# Altium integrated library MU-RK3576J-MB.IntLib: 262 symbols (part 3 of 4)
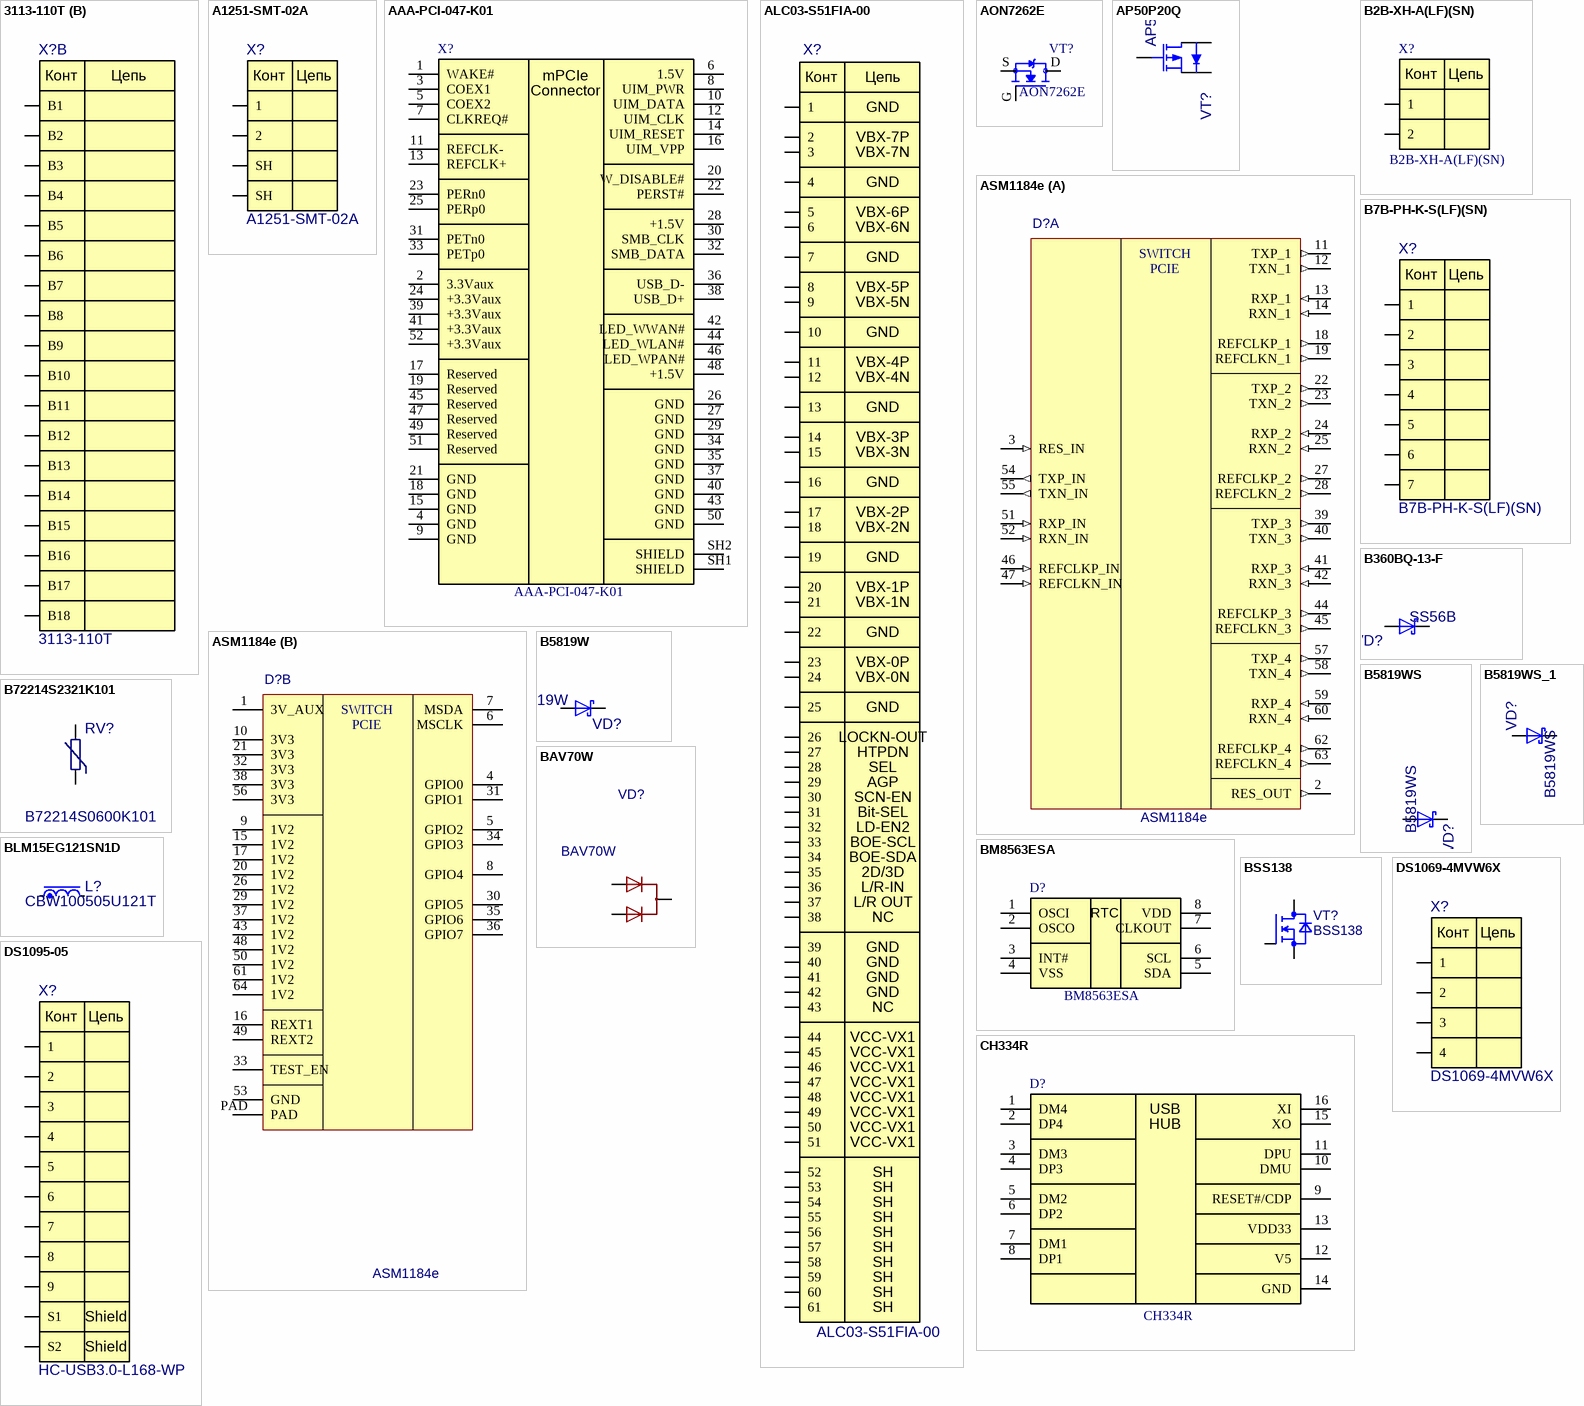
[diagram p15: symbols 3113-110T to DS1095-05]

## 3113-110T
designator X?
PCI Connector, Vertical, Surface Mount, x1, 36 Positions, 1.00mm (0.039in) Pitch; Manufacturer: UMAX; Check: False; Part Number: 3113-110T; Value: 3113-110T; NameFromManufacturer: 3113-110T
footprint 3113-110T
part A pins: A1, A2, A3, A4, A5, A6, A7, A8, A9, A10, A11, A12, A13, A14, A15, A16, A17, A18
part B pins: B1, B2, B3, B4, B5, B6, B7, B8, B9, B10, B11, B12, B13, B14, B15, B16, B17, B18
part A text: Конт; Цепь
part B text: Конт; Цепь

## A1251-SMT-02A
designator X?
PicoBlade 1.25mm; Manufacturer: MOLEX; Check: False; Part Number: A1251-SMT-02A; Value: A1251-SMT-02A; NameFromManufacturer: A1251-SMT-02A
footprint A1251-SMT-02A
pins: 1, 2, 3 SH, 4 SH
text: Конт; Цепь

## AAA-PCI-047-K01
designator X?
mPCI-E Surface Mount 52 SMD,P=0.8mm Card Edge Connectors; Manufacturer: LOTES; Place: S; Check: False; Value: AAA-PCI-047-K01; Part Number: AAA-PCI-047-K01; NameFromManufacturer: AAA-PCI-047-K01; ComponentLink1Description: DATASHEET; Last changed: 24.03.2023
footprint AAA-PCI-047-K01
pins: 1 WAKE#, 2 3.3Vaux, 3 СОЕХ1, 4 GND, 5 СОЕХ2, 6 1.5V, 7 CLKREQ#, 8 UIM_PWR, 9 GND, 10 UIM_DATA, 11 REFCLK-, 12 UIM_CLK, 13 REFCLK+, 14 UIM_RESET, 15 GND, 16 UIM_VPP, 17 Reserved, 18 GND, 19 Reserved, 20 W_DISABLE#, 21 GND, 22 PERST#, 23 PERn0, 24 +3.3Vaux, 25 PERp0, 26 GND, 27 GND, 28 +1.5V, 29 GND, 30 SMB_CLK, 31 PETn0, 32 SMB_DATA, 33 РЕТр0, 34 GND, 35 GND, 36 USB_D-, 37 GND, 38 USB_D+, 39 +3.3Vaux, 40 GND, 41 +3.3Vaux, 42 LED_WWAN#, 43 GND, 44 LED_WLAN#, 45 Reserved, 46 LED_WPAN#, 47 Reserved, 48 +1.5V, 49 Reserved, 50 GND, 51 Reserved, 52 +3.3Vaux, SH1 SHIELD, SH2 SHIELD
text: mPCIe; Connector

## ALC03-S51FIA-00
designator X?
Non-Latching 51P 0.5mm 500mA 50V Bottom Contact Surface Mount, Right Angle SMD,P=0.5mm,Surface Mount,Right Angle FFC, FPC (Flat Flexible) Connector Assemblies RoHS; Manufacturer: JUSHUO; Check: False; Part Number: ALC03-S51FIA-00; Value: ALC03-S51FIA-00; NameFromManufacturer: ALC03-S51FIA-00
footprint ALC03-S51FIA-00
pins: 1, 2, 3, 4, 5, 6, 7, 8, 9, 10, 11, 12, 13, 14, 15, 16, 17, 18, 19, 20, 21, 22, 23, 24, 25, 26, 27, 28, 29, 30, 31, 32, 33, 34, 35, 36, 37, 38, 39, 40, 41, 42, 43, 44, 45, 46, 47, 48, 49, 50, 51, 52, 53, 54, 55, 56, 57, 58, 59, 60, 61
text: Конт; Цепь; GND; VBX-7P; VBX-7N; VBX-6P; VBX-6N; VBX-5P; VBX-5N; VBX-4P; VBX-4N; VBX-3P; VBX-3N; VBX-2P; VBX-2N; VBX-1P; VBX-1N; VBX-0P; VBX-0N; LOCKN-OUT; HTPDN; SEL; AGP; SCN-EN; Bit-SEL; LD-EN2; BOE-SCL; BOE-SDA; 2D/3D; L/R-IN; L/R OUT; NC; VCC-VX1; SH

## AON7262E
designator VT?
60V 6.2mΩ@10V,20A 2.2V@250uA N Channel DFN-8(3.3x3.3) MOSFET; Manufacturer: Alpha & Omega; Check: False; Part Number: AON7262E; NameFromManufacturer: AON7262E; Value: AON7262E
footprint DMN4020LFDEQ-7
footprint AON7262E
pins: D, G, S

## AP50P20Q
designator VT?
20V 50A 40W 6.6mΩ@4.5V,15A 650mV@250uA P Channel WDFN-8(3x3) MOSFETs; Manufacturer: ALLPOWER; Check: False; Part Number: AP50P20Q; Value: AP50P20Q; NameFromManufacturer: AP50P20Q
footprint AP50P20Q
pins: 1, 2, 3, 4, 5, 6, 7, 8

## ASM1184e
designator D?
Interface PCIE switch, PCIEx1 to 4xPCIEx1, 3.0V~3.6V, QFN-64 9.0x9.0x0.9mm 0.5mm pitch; Manufacturer: ASMedia; Place: *); Check: False; Part Number: ASM1184e; Temperature: 0°C~95°C; Value: ASM1184e; ComponentLink1Description: DATASHEET; NameFromManufacturer: ASM1184e; Last changed: 26.01.2026
footprint QFN50X90X90X09-64T75x75
part A pins: 2 RES_OUT (out), 3 RES_IN (in), 11 TXP_1 (out), 12 TXN_1 (out), 13 RXP_1 (in), 14 RXN_1 (in), 18 REFCLKP_1 (out), 19 REFCLKN_1 (out), 22 TXP_2 (out), 23 TXN_2 (out), 24 RXP_2 (in), 25 RXN_2 (in), 27 REFCLKP_2 (out), 28 REFCLKN_2 (out), 39 TXP_3 (out), 40 TXN_3 (out), 41 RXP_3 (in), 42 RXN_3 (in), 44 REFCLKP_3 (out), 45 REFCLKN_3 (out), 46 REFCLKP_IN (in), 47 REFCLKN_IN (in), 51 RXP_IN (in), 52 RXN_IN (in), 54 TXP_IN (out), 55 TXN_IN (out), 57 TXP_4 (out), 58 TXN_4 (out), 59 RXP_4 (in), 60 RXN_4 (in), 62 REFCLKP_4 (out), 63 REFCLKN_4 (out)
part B pins: 1 3V_AUX (power), 4 GPIO0 (power), 5 GPIO2 (power), 6 MSCLK (power), 7 MSDA (power), 8 GPIO4 (power), 9 1V2 (power), 10 3V3 (power), 15 1V2 (power), 16 REXT1 (power), 17 1V2 (power), 20 1V2 (power), 21 3V3 (power), 26 1V2 (power), 29 1V2 (power), 30 GPIO5 (power), 31 GPIO1 (power), 32 3V3 (power), 33 TEST_EN (power), 34 GPIO3 (power), 35 GPIO6 (power), 36 GPIO7 (power), 37 1V2 (power), 38 3V3 (power), 43 1V2 (power), 48 1V2 (power), 49 REXT2 (power), 50 1V2 (power), 53 GND (power), 56 3V3 (power), 61 1V2 (power), 64 1V2 (power), PAD
part A text: SWITCH; PCIE
part B text: SWITCH; PCIE

## B2B-XH-A(LF)(SN)
designator X?
Connector Header 2 position 2.5mm Pitch 3A Through Hole -25℃~+85℃; Manufacturer: JST; Check: False; Value: B2B-XH-A(LF)(SN); Availability: Unavailable; Price: None; Package: None; MP: B2B-XH-A(LF)(SN); Part Number: B2B-XH-A(LF)(SN); NameFromManufacturer: B2B-XH-A(LF)(SN)
footprint B2B-XH-A(LF)(SN)
pins: 1, 2
text: Конт; Цепь

## B7B-PH-K-S(LF)(SN)
designator X?
Connector Header 7 position 2mm Pitch 2A Through Hole -25℃~+85℃; Manufacturer: JST; Check: False; Part Number: B7B-PH-K-S(LF)(SN); Value: B7B-PH-K-S(LF)(SN); NameFromManufacturer: B7B-PH-K-S(LF)(SN)
footprint B7B-PH-K-S(LF)(SN)
pins: 1, 2, 3, 4, 5, 6, 7
text: Конт; Цепь

## B360BQ-13-F
designator VD?, comment SS56B
Schottky Rectifier; Manufacturer: Yangjie (YJ); Place: S; Check: False; Part Number: SS56B; Value: SS56B; Temperature: -55°C~150°C; NameFromManufacturer: SS56B; Last changed: 27.10.2022
footprint DO-214AA
pins: 1 K, 2 A

## B5819W
designator VD?
Manufacturer: MDD; Check: False; Part Number: B5819W; Value: B5819W; NameFromManufacturer: B5819W
footprint B5819W
pins: 1 K, 2 A

## B5819WS
designator VD?
Rectifier Diode, Schottky, 1 Phase, 1 Element, 1A, 40V V(RRM), Silicon; Check: False; Part Number: B5819WS; Value: B5819WS; NameFromManufacturer: B5819WS
footprint B5819WS
pins: 1 K, 2 A

## B5819WS_1
designator VD?, comment B5819WS
Manufacturer: MDD; Check: False; Part Number: B5819WS; Value: B5819WS; NameFromManufacturer: B5819WS
footprint B5819WS
pins: 1 K, 2 A

## B72214S2321K101
designator RV?, comment B72214S0600K101
Varistor; Manufacturer: Epcos; Place: *); Voltage: 320V; Check: False; Case: CASE; Part Number: B72214S0600K101; Value: B72214S0600K101; Temperature: -40°C~105°C; ComponentLink1Description: DATASHEET; NameFromManufacturer: B72214S0600K101; ComponentLink1URL: https://www.chipdip.ru/product0/8003145013; Last changed: 27.10.2022
footprint Var_dia15.5
pins: 1, 2

## BAV70W
designator VD?
70V Dual Common Cathode 1V 6ns 200mA SOT-323 Switching Diode; Manufacturer: LRC; NameFromManufacturer: LBAV70WT1G; Place: *); Check: False; Part Number: BAV70W; Value: BAV70W; Temperature: -55°C~150°C; ComponentLink1Description: DATASHEET; ComponentLink1URL: https://www.lcsc.com/product-detail/Switching-Diode_LRC-LBAV70WT1G_C383182.html; Last changed: 04.07.2024; Analog: BAV70W
footprint SOT323
pins: 1 A, 2 A, 3 CC
1 alternate drawing of the same symbol

## BLM15EG121SN1D
designator L?, comment CBW100505U121T
120Ω@100MHz  Ferrite Beads; Manufacturer: Murata Electronics; Place: S; Tolerance: 25%; DC Resistance: 0.095R; Check: False; Analog: UPZ1005D121-1R3TF, CBW100505U121T, BLM15EG121SN1D; Part Number: CBW100505U121T; Value: CBW100505U121T; Temperature: -40°C~85°C; NameFromManufacturer: CBW100505U121T; Last changed: 18.04.2023
footprint L0402
pins: 1, 2

## BM8563ESA
designator D?
I2C SOP-8 Real-time Clocks; Manufacturer: GATEMODE; Check: False; Analog: TCS8563 (SOP-8); Part Number: BM8563ESA; NameFromManufacturer: BM8563ESA; Value: BM8563ESA; ComponentLink1Description: DATASHEET; Last changed: 24.03.2023
footprint BM8563ESA
pins: 1 OSCI, 2 OSCO, 3 INT#, 4 VSS, 5 SDA, 6 SCL, 7 CLKOUT, 8 VDD
text: RTC

## BSS138
designator VT?
Полевой, N-канал, 2,5 Ом, 50 В, 500 мА; Part_ID: ATB-01169; Manufacturer: UMW; Schematic_Part: MOP_IND_N_G1S2D3_min,MOP_IND_N_G1S2D3,MOP_IND_N_G1S2D3_v1; Тип ЭКБ: Транзисторы; Тип компонента: Транзистор; Температура: +150; PCB_Footprint: sot95p240x115-3l_v1; Тип корпуса: SOT23; Вариант установки: Поверхностный; Код ERP: E2-00025921; Photo: ON_Semiconductor_MMBZ5232BLT1G.jpg; Автор: Чепиков И.В.; Library Ref 2: MOPINDNG1S2D3; Part Number: BSS138; Наименование: BSS138; Datasheet: BSS138.pdf; Value: BSS138; Part_Number: BSS138; Height: 1.15; Производитель: UMW; Website: https://jlcpcb.com/partdetail/324144-BSS138/C347484?ysclid=m1jb6af3x193582470; Дата: 26.09.2024; Device: BSS138; NameFromManufacturer: BSS138; ComponentLink1Description: BSS138.pdf; ComponentLink1URL: https://jlcpcb.com/partdetail/324144-BSS138/C347484?ysclid=m1jb6af3x193582470; Original PN: BSS138
footprint sot95p240x115-3l_v1
pins: 1, 2, 3
1 alternate drawing of the same symbol

## CH334R
designator D?
4-port USB2.0 high-speed HUB controller; Manufacturer: WCH; Check: False; Part Number: CH334R; NameFromManufacturer: CH334R; Value: CH334R
footprint QFN-28
footprint CH334R
pins: 1 DM4, 2 DP4, 3 DM3, 4 DP3, 5 DM2, 6 DP2, 7 DM1, 8 DP1, 9 RESET#/CDP, 10 DMU, 11 DPU, 12 V5, 13 VDD33, 14 GND, 15 XO, 16 XI
text: USB; HUB

## DS1069-4MVW6X
designator X?
1 XH 4P -25℃~+85℃ 2.5mm 3A 250V 1x4P Through Hole,P=2.5mm Headers, Male Pins RoHS; Manufacturer: CONNFLY; Check: False; Part Number: DS1069-4MVW6X; Value: DS1069-4MVW6X; NameFromManufacturer: DS1069-4MVW6X
footprint DS1069-4MVW6X
pins: 1, 2, 3, 4
text: Конт; Цепь

## DS1095-05
designator X?, comment HC-USB3.0-L168-WP
USB type A, USB 3.0, right angle; Manufacturer: Hong Cheng; Place: *); Check: False; Part Number: HC-USB3.0-L168-WP; Value: HC-USB3.0-L168-WP; Temperature: -40°C~85°C; ComponentLink1Description: DATASHEET; NameFromManufacturer: HC-USB3.0-L168-WP; ComponentLink1URL: https://www.chipdip.ru/product/usb-3.0-a-ds1095-05; Last changed: 27.10.2022
footprint DS1095-05
pins: 1, 2, 3, 4, 5, 6, 7, 8, 9, S1, S2
text: Конт; Цепь; Shield

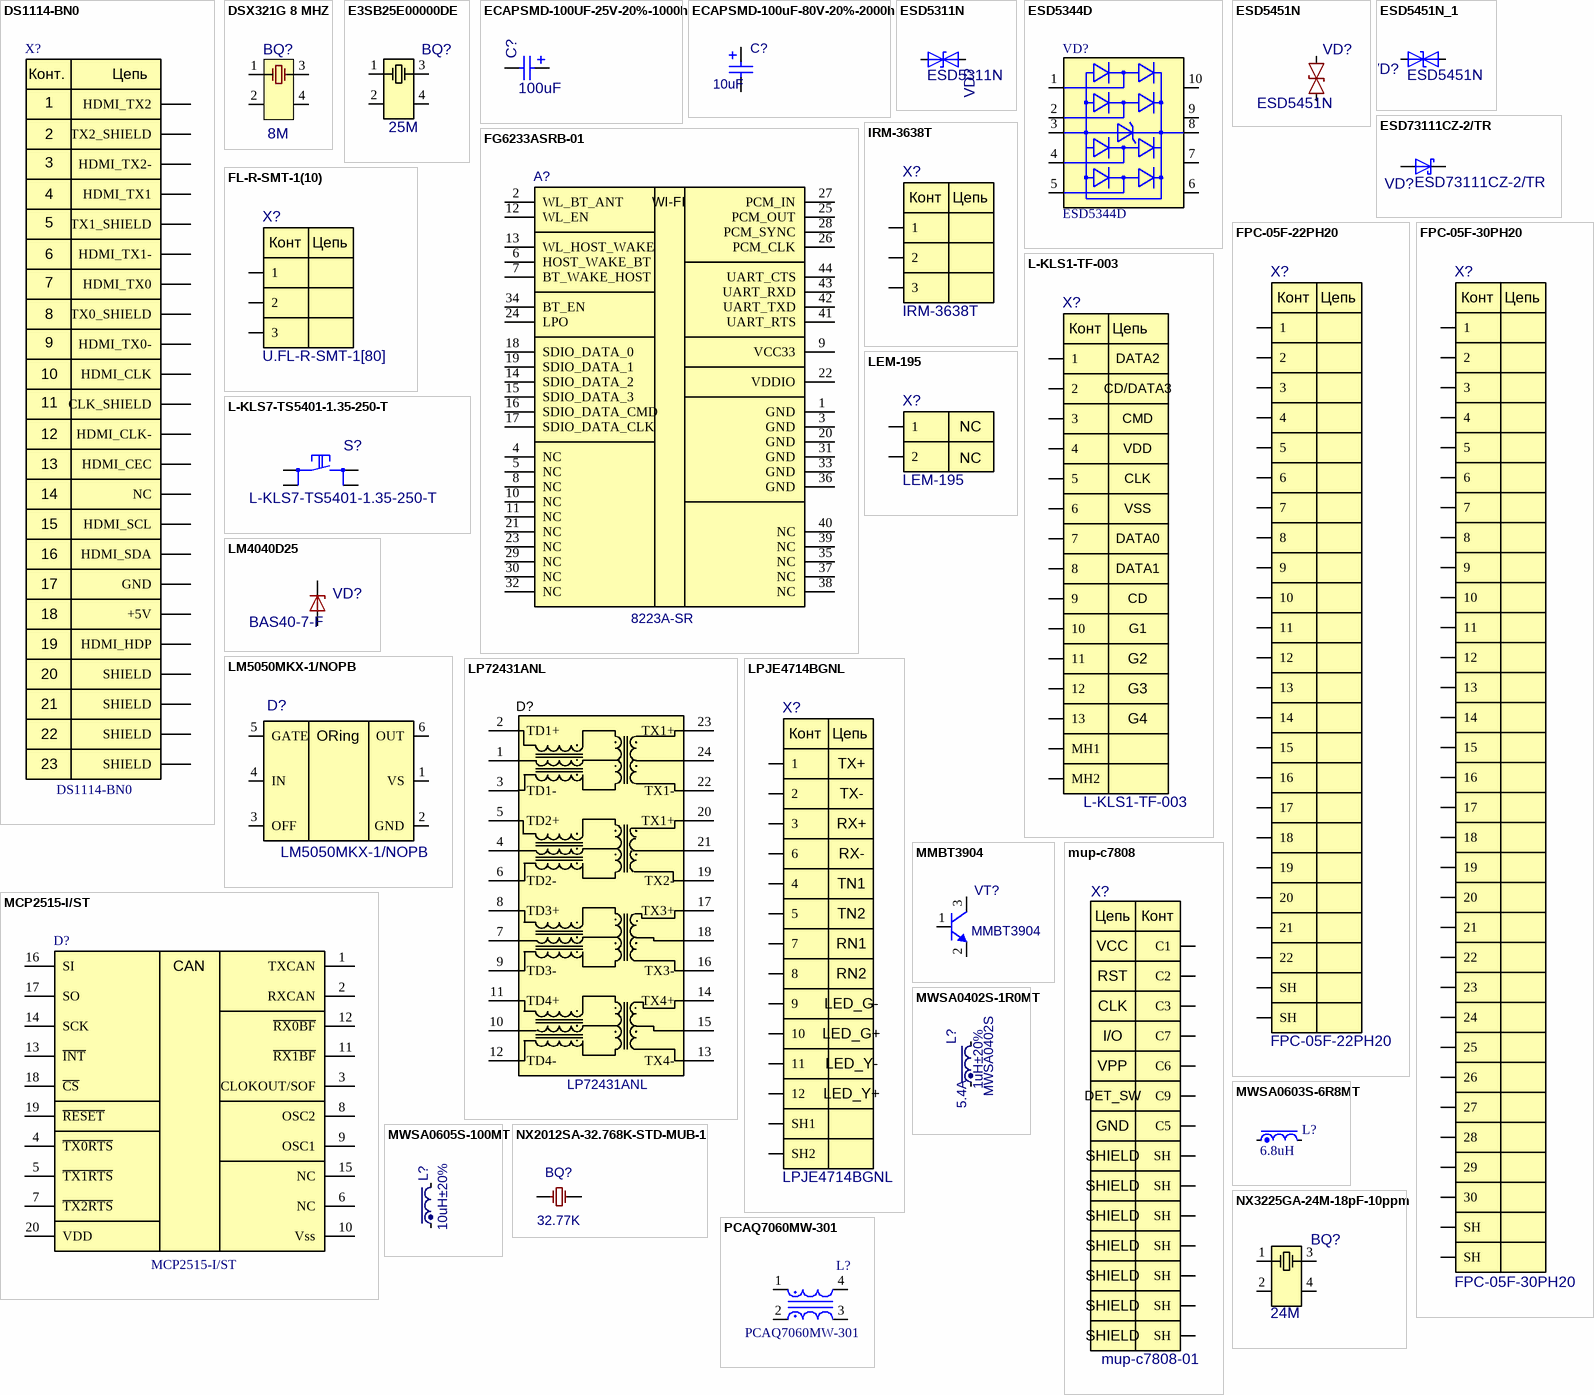
[diagram p5: symbols DS1114-BN0 to PCAQ7060MW-301]

## DS1114-BN0
designator X?
Разъем HDMI розетка угловая на плату, 19 контактов, SMD; Manufacturer: Connfly; Check: False; Part Number: DS1114-BN0; NameFromManufacturer: DS1114-BN0; Value: DS1114-BN0
footprint HYC70-HDMIA19-230
footprint DS1114-BN0XR
pins: 1 HDMI_TX2, 2 TX2_SHIELD, 3 HDMI_TX2-, 4 HDMI_TX1, 5 TX1_SHIELD, 6 HDMI_TX1-, 7 HDMI_TX0, 8 TX0_SHIELD, 9 HDMI_TX0-, 10 HDMI_CLK, 11 CLK_SHIELD, 12 HDMI_CLK-, 13 HDMI_CEC, 14 NC, 15 HDMI_SCL, 16 HDMI_SDA, 17 GND, 18 +5V, 19 HDMI_HDP, 20 SHIELD, 21 SHIELD, 22 SHIELD, 23 SHIELD
text: Конт.; Цепь

## DSX321G 8 MHZ
designator BQ?, comment 8M
8MHz 3225 quartz 4 pin; Part Number: X32258MOB4SI; Manufacturer: YXC Crystal Oscillators; Place: *); Tolerance: 20ppm; Check: False; Value: 8M; Temperature: -40°C~85°C; NameFromManufacturer: X32258MOB4SI; ComponentLink1Description: DATASHEET; ComponentLink1URL: https://www.promelec.ru/fs/sources/95/f4/1b/b5/0db2e911831872b0ebc49c9b.pdf; Last changed: 24.01.2024; Analog: X32258MOB4SI
footprint NX3225GA
pins: 1, 2, 3, 4
2 alternate drawings of the same symbol

## E3SB25E00000DE
designator BQ?, comment 25M
25MHz 10pF ±10ppm SMD3225-4P; Part Number: TAXM25M4RDBCCT2T; Manufacturer: Yajingxin; Place: S; Check: False; Value: 25M; Temperature: -40°C~85°C; Tolerance: 10ppm; NameFromManufacturer: TAXM25M4RDBCCT2T; Last changed: 18.04.2023
footprint NX3225GA
pins: 1, 2, 3, 4
2 alternate drawings of the same symbol

## ECAPSMD-100UF-25V-20%-1000h
designator C?, comment 100uF
*; Part Number: ECAPSMD-100UF-25V-20%-1000h; Manufacturer: Panasonic Electronic Components; NameFromManufacturer: EEE1EA101XP; Place: S; Voltage: 25V; Tolerance: 20%; Check: False; Value: 100uF; Temperature: -40°C~85°C; ComponentLink1Description: DATASHEET; ComponentLink1URL: https://www.terraelectronica.ru/product/3165276; Datasheet: #https://api.pim.na.industrial.panasonic.com/file_stream/main/fileversion/9149#; Last changed: 24.08.2022
footprint SMD_6.3x7.7mm
pins: 1, 2
1 alternate drawing of the same symbol

## ECAPSMD-100uF-80V-20%-2000h
designator C?, comment 10uF
*; Part Number: ECAPSMD-100uF-80V-20%-2000h; Manufacturer: Panasonic Electronic Components; NameFromManufacturer: EEEFK1K100P; Place: *); Voltage: 80V; Tolerance: 20%; Check: False; Value: 10uF; Temperature: -45°C~105°C; ComponentLink2Description: Link to datasheet; ComponentLink1Description: DATASHEET; ComponentLink2URL: https://lcsc.com/product-detail/Aluminum-Electrolytic-Capacitors-SMD_PANASONIC-EEEFK1K100P_C401724.html; ComponentLink1URL: Datasheets/capacitors/ABA0000C1181.pdf#Datasheets/capacitors/ABA0000C1181.pdf#; Last changed: 09.11.2022
footprint E_panasonic
pins: 1, 2
1 alternate drawing of the same symbol

## ESD5311N
designator VD?
1-Line, Bi-directional, Transient Voltage Suppressors.0.25pF.; Manufacturer: UMW; Check: False; Part Number: ESD5311N; Value: ESD5311N; NameFromManufacturer: ESD5311N
footprint ESD5311N
pins: 1, 2

## ESD5344D
designator VD?
Manufacturer: KUU; Check: False; Part Number: ESD5344D; Value: ESD5344D; NameFromManufacturer: ESD5344D
footprint QFN40P500X500X90-41N-D
footprint ESD5344D
pins: 1, 2, 3, 4, 5, 6, 7, 8, 9, 10

## ESD5451N
designator VD?
Bidirectional TVS Diode 5V; Manufacturer: Tech Public Co.; Place: *); Check: False; Part Number: ESD5451N; Value: ESD5451N; Temperature: -65°C~150°C; ComponentLink1Description: DATASHEET; NameFromManufacturer: ESD5451N; Last changed: 13.04.2023
footprint DFN_1006_2
pins: 1, 2

## ESD5451N_1
designator VD?, comment ESD5451N
Diode; Manufacturer: Tech Public Co.; Place: S; Check: False; Part Number: ESD5451N; Value: ESD5451N; Temperature: -65°C~150°C; ComponentLink1Description: DATASHEET; NameFromManufacturer: ESD5451N; Last changed: 13.04.2023
footprint DFN_1006_2
pins: 1, 2

## ESD73111CZ-2/TR
designator VD?
6.5VC Clamp 6A@8/20us Ipp ESD DIODE DWN0603-2L; Manufacturer: WILLSEMI; Check: False; Part Number: ESD73111CZ-2/TR; Value: ESD73111CZ-2/TR; NameFromManufacturer: ESD73111CZ-2/TR
footprint ESD73111CZ-2/TR
pins: 1 K, 2 A

## FG6233ASRB-01
designator A?, comment 8223A-SR
WIFI/BT; Manufacturer: FN-LINK; Place: S; Check: False; Part Number: 8223A-SR; Value: 8223A-SR; Temperature: -40°C~125°C; ComponentLink1Description: DATASHEET; NameFromManufacturer: 8223A-SR; ComponentLink1URL: https://www.fn-link.com/8223A-SR-Wi-Fi-Module-pd47636492.html; Datasheet: #https://rjrorwxhqkkmlr5p-static.micyjz.com/Fn-Link_8223A-SR_datasheet_V1.7_20220527-aidliBplKimloSRljkrmopnip.pdf?dp=#; Last changed: 27.07.2022
footprint U.8223A-SR
footprint FG6233ASRB-01
pins: 1 GND, 2 WL_BT_ANT, 3 GND, 4 NC, 5 NC, 6 HOST_WAKE_BT, 7 BT_WAKE_HOST, 8 NC, 9 VCC33, 10 NC, 11 NC, 12 WL_EN, 13 WL_HOST_WAKE, 14 SDIO_DATA_2, 15 SDIO_DATA_3, 16 SDIO_DATA_CMD, 17 SDIO_DATA_CLK, 18 SDIO_DATA_0, 19 SDIO_DATA_1, 20 GND, 21 NC, 22 VDDIO, 23 NC, 24 LPO, 25 PCM_OUT, 26 PCM_CLK, 27 PCM_IN, 28 PCM_SYNC, 29 NC, 30 NC, 31 GND, 32 NC, 33 GND, 34 BT_EN, 35 NC, 36 GND, 37 NC, 38 NC, 39 NC, 40 NC, 41 UART_RTS, 42 UART_TXD, 43 UART_RXD, 44 UART_CTS
text: WI-FI

## FL-R-SMT-1(10)
designator X?, comment U.FL-R-SMT-1[80]
U.FL-R-SMT-1; Manufacturer: TE Connectivity; Place: S; Check: False; Part Number: U.FL-R-SMT-1[80]; Value: U.FL-R-SMT-1[80]; Temperature: -40°C~90°C; NameFromManufacturer: U.FL-R-SMT-1[80]; Last changed: 27.10.2022
footprint 1909763-1
pins: 1, 2, 3
text: Конт; Цепь

## FPC-05F-22PH20
designator X?
FFC/FPC Connector 22 Position 0.5mm Pitch Bottom Contact Surface Mount, Right Angle -25℃~+85℃; Manufacturer: XUNPU; Check: False; Part Number: FPC-05F-22PH20; Value: FPC-05F-22PH20; NameFromManufacturer: FPC-05F-22PH20
footprint FPC-05F-22PH20
pins: 1, 2, 3, 4, 5, 6, 7, 8, 9, 10, 11, 12, 13, 14, 15, 16, 17, 18, 19, 20, 21, 22, M1 SH, M2 SH
text: Конт; Цепь

## FPC-05F-30PH20
designator X?
Flip type -25℃~+85℃ 30P Bottom Contact Horizontal attachment 0.5mm SMD,P=0.5mm,Surface Mount，Right Angle FFC, FPC (Flat Flexible) Connector; Manufacturer: XUNPU; Check: False; Part Number: FPC-05F-30PH20; Value: FPC-05F-30PH20; NameFromManufacturer: FPC-05F-30PH20
footprint FPC-05F-30PH20
pins: 1, 2, 3, 4, 5, 6, 7, 8, 9, 10, 11, 12, 13, 14, 15, 16, 17, 18, 19, 20, 21, 22, 23, 24, 25, 26, 27, 28, 29, 30, SH, SH
text: Конт; Цепь

## IRM-3638T
designator X?
SIP-3-2.54mm Photo Detectors - Remote Receiver RoHS; Manufacturer: EVERLIGHT; Check: False; Part Number: IRM-3638T; Value: IRM-3638T; NameFromManufacturer: IRM-3638T
footprint IRM-3638T
pins: 1, 2, 3
text: Конт; Цепь

## L-KLS1-TF-003
designator X?
L-KLS1-TF-003 Push-Push H1.85mm With CD Pin Micro SD Card Connector; Manufacturer: KLS; Check: False; Part Number: L-KLS1-TF-003; Value: L-KLS1-TF-003; NameFromManufacturer: L-KLS1-TF-003
footprint TFP09212B
footprint KLS1-TF-003
pins: 1, 2, 3, 4, 5, 6, 7, 8, 9, 10, 11, 12, 13, MH1, MH2
text: Конт; Цепь; DATA2; CD/DATA3; CMD; VDD; CLK; VSS; DATA0; DATA1; CD; G1; G2; G3; G4

## L-KLS7-TS5401-1.35-250-T
designator S?
Switch; Manufacturer: KLS Electronic; Place: T; Check: False; Part Number: L-KLS7-TS5401-1.35-250-T; Value: L-KLS7-TS5401-1.35-250-T; Temperature: -30°C~70°C; ComponentLink1URL: https://www.chipdip.ru/product0/8010518403; ComponentLink1Description: DATASHEET; NameFromManufacturer: L-KLS7-TS5401-1.35-250-T; Datasheet: Datasheets/switch/20150508141012KLS7-TS5401.pdf; Last changed: 27.10.2022
footprint KLS7-TS5401
pins: 1, 2, 3, 4

## LEM-195
designator X?
Manufacturer: Kang Yang; Check: False; Part Number: LEM-195; Value: LEM-195; NameFromManufacturer: LEM-195
footprint LEM-195
pins: 1, 2
text: NC

## LM4040D25
designator VD?, comment BAS40-7-F
600mA 1 Independent 40V 1V@40mA 200mA SOT-23 Single Diodes RoHS; Manufacturer: Diodes Incorporated; Place: *); Check: False; Part Number: BAS40-7-F; Value: BAS40-7-F; Temperature: -40°C~150°C; ComponentLink1Description: DATASHEET; NameFromManufacturer: BAS40-7-F; ComponentLink1URL: https://www.lcsc.com/product-detail/Voltage-Reference_Diodes-Incorporated-LM4040D25FTA_C107244.html; Last changed: 05.07.2024
footprint SOT23
pins: 1 C, 2 A

## LM5050MKX-1/NOPB
designator D?
High-Side OR-ing FET Controller; Manufacturer: TI; Check: False; Part Number: LM5050MKX-1/NOPB; Value: LM5050MKX-1/NOPB; NameFromManufacturer: LM5050MKX-1/NOPB
footprint LM5050MKX-1/NOPB
pins: 1 VS, 2 GND, 3 OFF, 4 IN, 5 GATE, 6 OUT
text: ORing

## LP72431ANL
designator D?
10G Base -T 24 Pin Single Port SMD PoE++ Lan Transformer Modules; Manufacturer: LINK-PP; Check: False; ComponentType: *; Manufacter: *; Voltage: *; ClassName: *; Tolerance: *; PartNumber: LP72431ANL; Package: LP72431ANL; Value: LP72431ANL; Part Number: LP72431ANL; NameFromManufacturer: LP72431ANL
footprint LP72431ANL (pitch 1.27 mm)
pins: 1 TCT1, 2 TD1+, 3 TD1-, 4 TCT2, 5 TD2+, 6 TD2-, 7 TCT3, 8 TD3+, 9 TD3-, 10 TCT4, 11 TD4+, 12 TD4-, 13 TX4-, 14 TX4+, 15 TCT_4, 16 TX3-, 17 TX3+, 18 TCT_3, 19 TX2-, 20 TX1+, 21 TCT_2, 22 TX1-, 23 TX1+, 24 TCT_1

## LPJE4714BGNL
designator X?
RJ45 supports speed 10/100 Base-T, it is compliant to IEEE 802.3; Manufacturer: LNIK-PP; Check: False; Part Number: LPJE4714BGNL; Value: LPJE4714BGNL; NameFromManufacturer: LPJE4714BGNL
footprint LPJE4714BGNL
pins: 1, 2, 3, 4, 5, 6, 7, 8, 9, 10, 11, 12, SH1, SH2
text: Конт; Цепь; TX+; TX-; RX+; RX-; TN1; TN2; RN1; RN2; LED_G-; LED_G+; LED_Y-; LED_Y+

## MCP2515-I/ST
designator D?
1Mbps CAN Controller TSSOP-20 Interface Controllers RoHS; Manufacturer: MICROCHIP; Check: False; Part Number: MCP2515-I/ST; NameFromManufacturer: MCP2515-I/ST; Value: MCP2515-I/ST
footprint QFN20
footprint MCP2515-I/ST
pins: 1 TXCAN, 2 RXCAN, 3 CLOKOUT/SOF, 4 ~{TX0RTS}, 5 ~{TX1RTS}, 6 NC, 7 ~{TX2RTS}, 8 OSC2, 9 OSC1, 10 Vss, 11 ~{RX1BF}, 12 ~{RX0BF}, 13 ~{INT}, 14 SCK, 15 NC, 16 SI, 17 SO, 18 ~{CS}, 19 ~{RESET}, 20 VDD
text: CAN

## MMBT3904
designator VT?
NPN transistor; Manufacturer: Diotec Semiconductor; Place: S; Voltage: 40V; Check: False; Part Number: MMBT3904; Value: MMBT3904; Temperature: -55°C~150°C; ComponentLink1Description: DATASHEET; NameFromManufacturer: MMBT3904; ComponentLink1URL: https://www.terraelectronica.ru/product/607582; Datasheet: Datasheets/transistors/mmbt3904.pdf; Last changeв: 27.10.2022
footprint ONSC-SOT-23-3-318-08_V
footprint SOT23
pins: 1 B, 2 E, 3 C

## mup-c7808
designator X?, comment mup-c7808-01
Manufacturer: MUP; Check: False; Part Number: mup-c7808-01; Value: mup-c7808-01; NameFromManufacturer: mup-c7808-01
footprint mup-c7808
pins: C1, C2, C3, C5, C6, C7, C9, SH1 SH, SH2 SH, SH3 SH, SH4 SH, SH5 SH, SH6 SH, SH7 SH
text: Цепь; Конт; VCC; RST; CLK; I/O; VPP; DET_SW; GND; SHIELD

## MWSA0402S-1R0MT
designator L?, comment 1uH±20%  Current: 5.4A  Case: MWSA0402S
5.4A 1uH ±20% 5.6A SMD 4.4x4.2mm Power Inductor; Part Number: MWSA0402S-1R0MT; Manufacturer: Sunlord; Place: *); DC Resistance: 0.27; Check: False; Value: 1uH; Tolerance: 20%; Temperature: -40°C~125°C; ComponentLink1Description: DATASHEET; NameFromManufacturer: MWSA0402S-1R0MT; ComponentLink1URL: https://www.electronshik.ru/item/SUNLORD/MWSA0402S-1R0MT; Last changed: 22.04.2025
footprint MWSA0402S
pins: 1, 2

## MWSA0603S-6R8MT
designator L?, comment 6.8uH
Fixed Ind 6.8UH 5A; Part Number: MWSA0603S-6R8MT; Manufacturer: Sunlord; Check: False; Value: 6.8uH; NameFromManufacturer: MWSA0603S-6R8MT; Current: 5A
footprint QFN40P500X500X90-41N-D
footprint MWSA0603S-6R8MT
pins: 1, 2

## MWSA0605S-100MT
designator L?, comment 10uH±20%
4.4A 10uH ±20% 4.5A SMD 7x6.6mm Power Inductor; Part Number: MWSA0605S-100MT; Manufacturer: Sunlord; Place: *); DC Resistance: 0.06R; Check: False; Current: 4.5A; Case: MWSA0605S; Value: 10uH; Tolerance: 20%; Temperature: -40°C~125°C; ComponentLink1Description: DATASHEET; NameFromManufacturer: MWSA0605S-100MT; ComponentLink1URL: https://www.electronshik.ru/search?query=MWSA0605S-100MT; Last changed: 17.07.2025
footprint MWSA0605S
pins: 1, 2

## NX2012SA-32.768K-STD-MUB-1
designator BQ?, comment 32.77K
CRYSTAL 32.768KHZ 12.5PF SMD; Part Number: NX2012SA-32.768K-STD-MUB-1; Manufacturer: NDK; Place: *); Check: False; Value: 32.77K; Temperature: -40°C~85°C; NameFromManufacturer: NX2012SA-32.768K-STD-MUB-1; ComponentLink1Description: DATASHEET; ComponentLink1URL: https://ru.mouser.com/ProductDetail/NDK/NX2012SA-32768K-STD-MUB-1?qs=55YtniHzbhA%252B6%2Fl1MwFZaQ%3D%3D; Datasheet: Datasheets/quartz/c_NX2012SA_e.pdf; Last changed: 27.10.2022
footprint FC-12M
pins: 1 inp, 2 out
2 alternate drawings of the same symbol

## NX3225GA-24M-18pF-10ppm
designator BQ?, comment 24M
Part Number: 3225-24-18-10-10/4B; Manufacturer: Liming; Place: S; Tolerance: 10ppm; Check: False; Value: 24M; NameFromManufacturer: 3225-24-18-10-10/4B; ComponentLink1Description: DATASHEET; ComponentLink1URL: https://www.raltron.com/wp-content/uploads/2019/07/RH100_SERIES-July-2019.pdf; Last changed: 27.10.2022
footprint NX3225GA
pins: 1, 2, 3, 4
2 alternate drawings of the same symbol

## PCAQ7060MW-301
designator L?
300Ω@100MHz 10mΩ 2 SMD,7x6x3.8mm; Manufacturer: PROD Tech; MF: Panasonic Electronic; MP: EEH-ZA1V151P; Check: False; Availability: In Stock; Price: None; Package: RADIAL-2 Panasonic; SnapEDA_Link: https://www.snapeda.com/parts/EEH-ZA1V151P/Panasonic%20Electronic%20Components/view-part/2297820/?ref=snap; Value: PCAQ7060MW-301; Check_prices: https://www.snapeda.com/parts/EEH-ZA1V151P/Panasonic%20Electronic%20Components/view-part/2297820/?ref=eda; Purchase-URL: https://pricing.snapeda.com/search/part/EEH-ZA1V151P/?ref=eda; Part Number: PCAQ7060MW-301; NameFromManufacturer: PCAQ7060MW-301
footprint PCAQ7060MW-301
pins: 1, 2, 3, 4

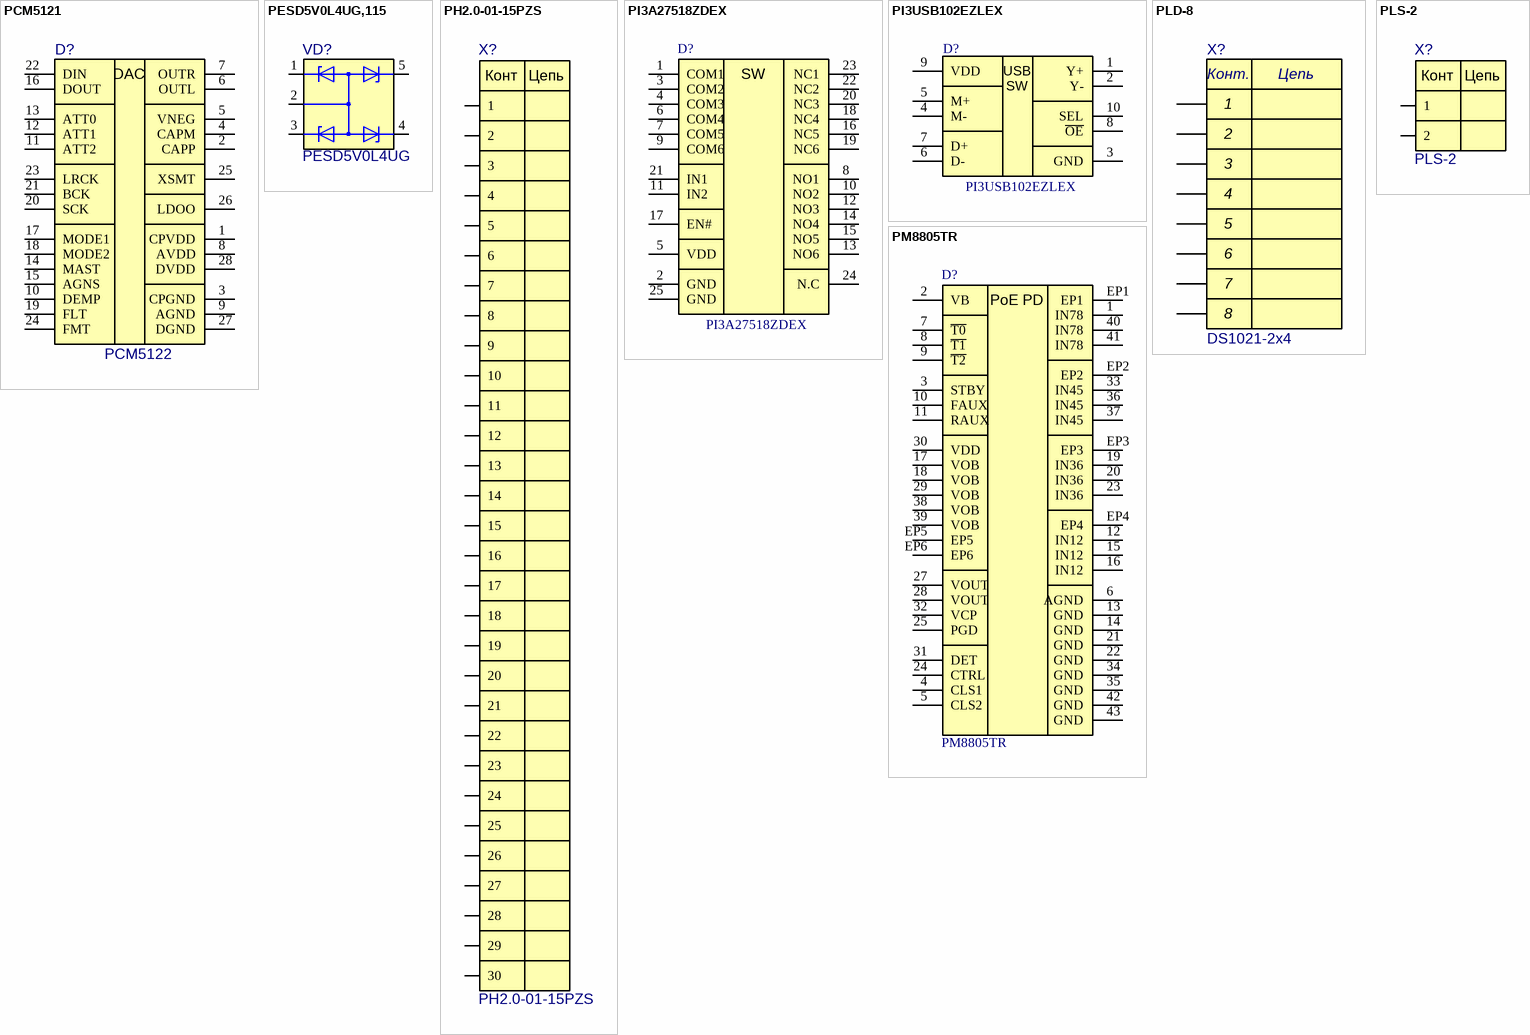
[diagram p6: symbols PCM5121 to PM8805TR]

## PCM5121
designator D?, comment PCM5122
2V RMS DIRECTPATH 106dB Audio Stereo DAC with PCM interface and fixed Audio processing; Manufacturer: Texas Instruments; Place: S; Check: False; Annotation: *; Param: *; Part Number: PCM5122; Temperature: -40°C~130°C; Value: PCM5122; ComponentLink1Description: DATASHEET; NameFromManufacturer: PCM5122; ComponentLink1URL: https://www.chipdip.ru/product0/8002050004; Datasheet: #https://www.ti.com/lit/ds/symlink/pcm5121.pdf?ts=1649018753254&ref_url=https%253A%252F%252Fwww.ti.com%252Fproduct%252FPCM5121#; Last changed: 04.04.2022
footprint TSSOP65-28
pins: 1 CPVDD, 2 CAPP, 3 CPGND, 4 CAPM, 5 VNEG, 6 OUTL, 7 OUTR, 8 AVDD, 9 AGND, 10 DEMP, 11 ATT2, 12 ATT1, 13 ATT0, 14 MAST, 15 AGNS, 16 DOUT, 17 MODE1, 18 MODE2, 19 FLT, 20 SCK, 21 BCK, 22 DIN, 23 LRCK, 24 FMT, 25 XSMT, 26 LDOO, 27 DGND, 28 DVDD
text: DAC

## PESD5V0L4UG,115
designator VD?, comment PESD5V0L4UG
Low capacitance unidirectional quadruple ESD protectiondiode arrays; Manufacturer: Tech Public Co.; Place: S; Check: False; Part Number: PESD5V0L4UG; Value: PESD5V0L4UG; Temperature: -65°C~150°C; ComponentLink1Description: DATASHEET; NameFromManufacturer: PESD5V0L4UG; ComponentLink1URL: https://ru.mouser.com/datasheet/2/916/PESDXL4UF_G_W-1599806.pdf; Last changed: 09.08.2021
footprint TSSOP5-5
pins: 1, 2, 3, 4, 5

## PH2.0-01-15PZS
designator X?
Pin Header 30 Position 2mm Pitch Dual Row Through Hole -40℃~+105℃; Manufacturer: XUNPU; Check: False; Part Number: PH2.0-01-15PZS; Value: PH2.0-01-15PZS; NameFromManufacturer: PH2.0-01-15PZS
footprint PH2.0-01-15PZS
pins: 1, 2, 3, 4, 5, 6, 7, 8, 9, 10, 11, 12, 13, 14, 15, 16, 17, 18, 19, 20, 21, 22, 23, 24, 25, 26, 27, 28, 29, 30
text: Конт; Цепь

## PI3A27518ZDEX
designator D?
1.8/3.3V High-Bandwidth 6-channel, 2:1 Mux/DeMux; Manufacturer: Diodes Incorporated; Check: False; Part Number: PI3A27518ZDEX; NameFromManufacturer: PI3A27518ZDEX; Value: PI3A27518ZDEX
footprint QFN20
footprint PI3A27518ZDEX
pins: 1 COM1, 2 GND, 3 COM2, 4 COM3, 5 VDD, 6 COM4, 7 COM5, 8 NO1, 9 COM6, 10 NO2, 11 IN2, 12 NO3, 13 NO6, 14 NO4, 15 NO5, 16 NC5, 17 EN#, 18 NC4, 19 NC6, 20 NC3, 21 IN1, 22 NC2, 23 NC1, 24 N.C, 25 GND
text: SW

## PI3USB102EZLEX
designator D?
USB 2.0 High-Speed (480 Mbps)  Switch with 5V Protection; Manufacturer: Diodes; Check: False; Part Number: PI3USB102EZLEX; NameFromManufacturer: PI3USB102EZLEX; Value: PI3USB102EZLEX
footprint PI3USB102EZLEX
pins: 1 Y+, 2 Y-, 3 GND, 4 M-, 5 M+, 6 D-, 7 D+, 8 ~{OE}, 9 VDD, 10 SEL
text: USB; SW

## PLD-8
designator X?, comment DS1021-2x4
Terminal block 8; Part Number: PLD-8; Manufacturer: Connfly; Place: *); Check: False; Value: DS1021-2x4; Temperature: -40°C~105°C; ComponentLink1Description: DATASHEET; NameFromManufacturer: DS1021-2x4; ComponentLink1URL: https://www.chipdip.ru/product/pld-8-ds1021-2x4; Datasheet: Datasheets/connectors/DS1021.pdf; Last changed: 27.10.2022
footprint PLD8
pins: 1, 2, 3, 4, 5, 6, 7, 8
text: Конт.; Цепь

## PLS-2
designator X?
Terminal block 2; Manufacturer: NXU; Place: T; Check: False; Part Number: PLS-2; Value: PLS-2; Temperature: -25°C~85°C; ComponentLink1Description: DATASHEET; NameFromManufacturer: PLS-2; Datasheet: Datasheets/connectors/pld_pls_01.pdf; Last changed: 27.10.2022
footprint PLS2
pins: 1, 2
text: Конт; Цепь

## PM8805TR
designator D?
Powered Device (PD) 99.9W VFQFPN-43(8x8) Power Over Ethernet (PoE) Controllers RoHS; Manufacturer: ST; Check: False; Part Number: PM8805TR; NameFromManufacturer: PM8805TR; Value: PM8805TR
footprint PM8805TR
pins: 1 IN78, 2 VB, 3 STBY, 4 CLS1, 5 CLS2, 6 AGND, 7 ~{T0}, 8 ~{T1}, 9 ~{T2}, 10 FAUX, 11 RAUX, 12 IN12, 13 GND, 14 GND, 15 IN12, 16 IN12, 17 VOB, 18 VOB, 19 IN36, 20 IN36, 21 GND, 22 GND, 23 IN36, 24 CTRL, 25 PGD, 27 VOUT, 28 VOUT, 29 VOB, 30 VDD, 31 DET, 32 VCP, 33 IN45, 34 GND, 35 GND, 36 IN45, 37 IN45, 38 VOB, 39 VOB, 40 IN78, 41 IN78, 42 GND, 43 GND, EP1, EP2, EP3, EP4, EP5, EP6
text: PoE PD

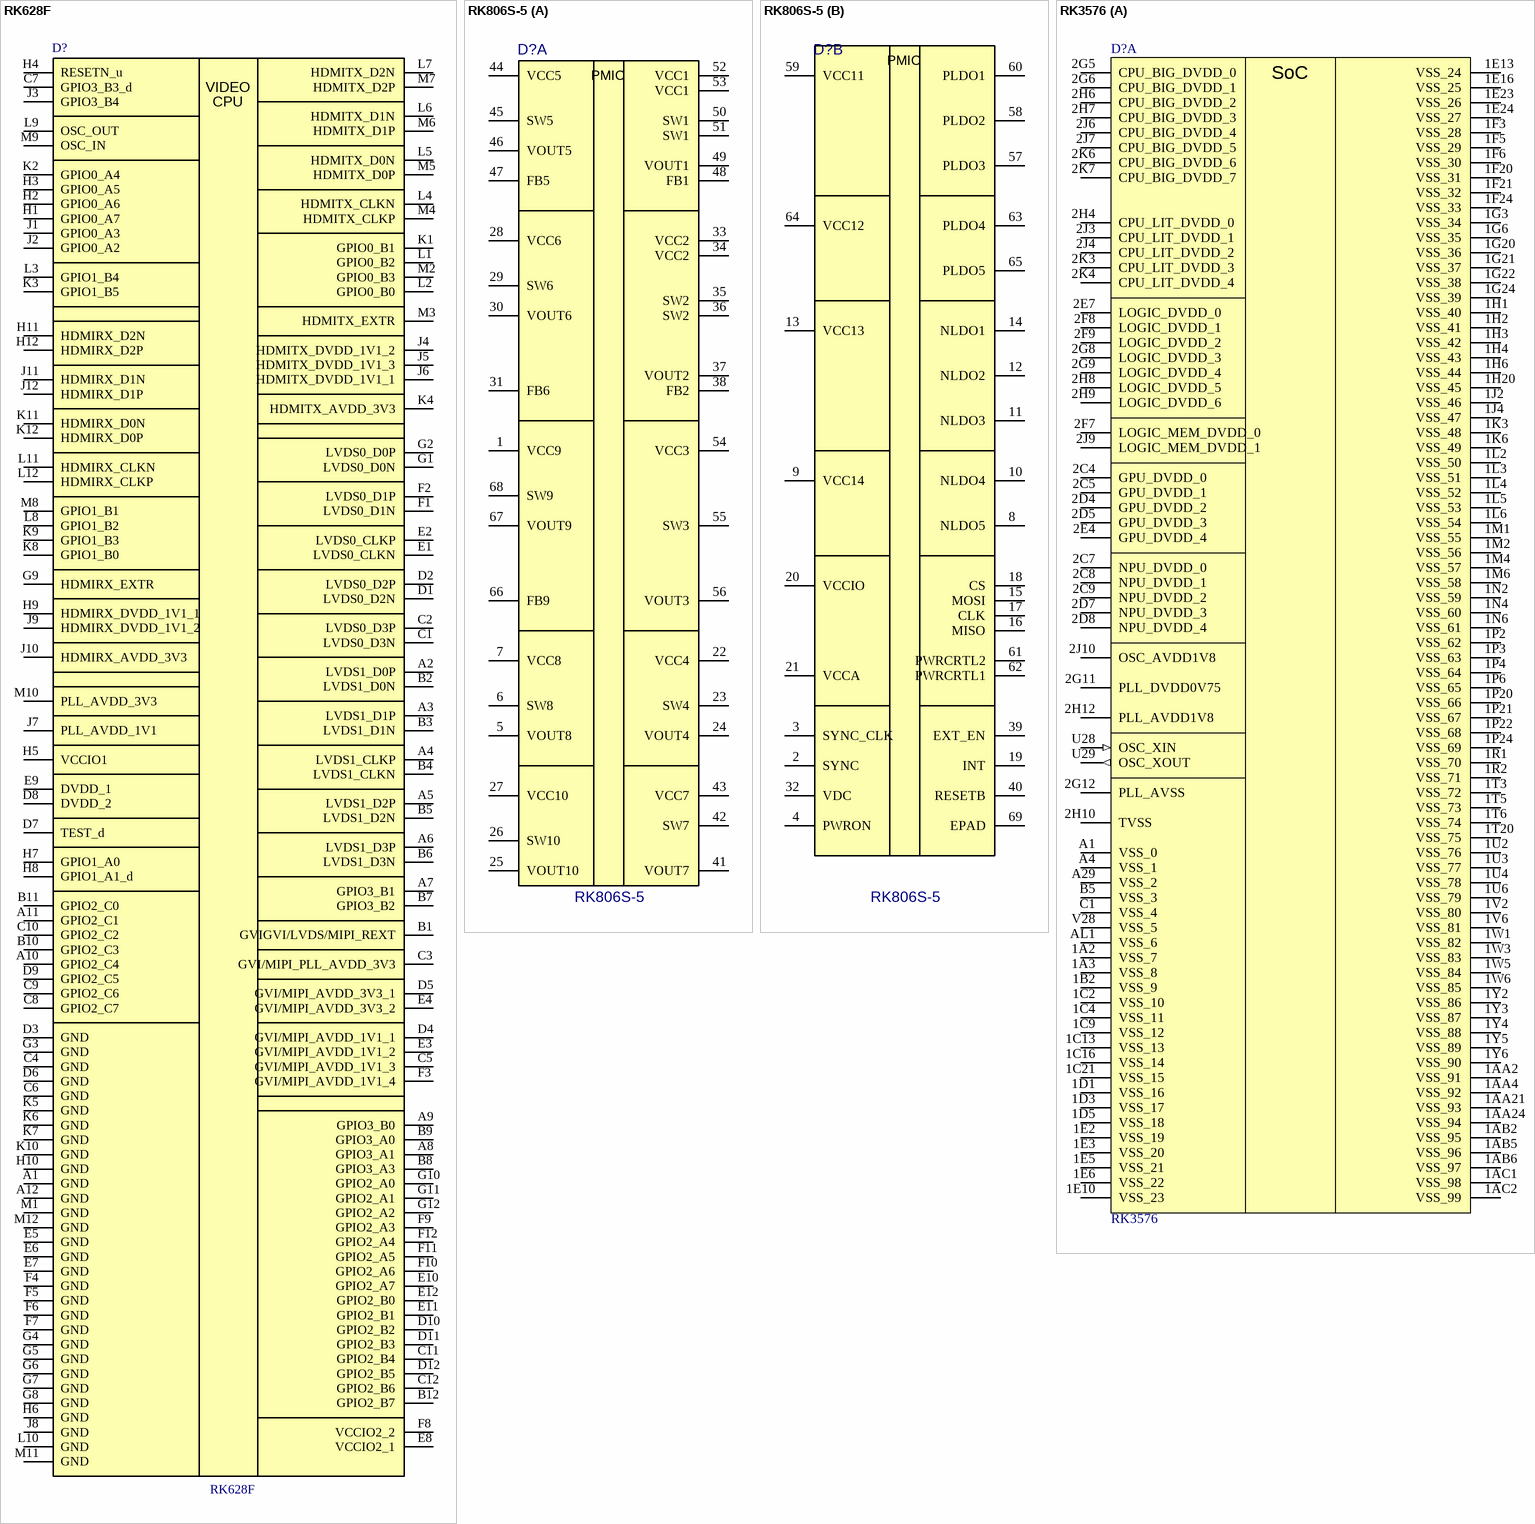
[diagram p7: symbols RK628F to RK3576]

## RK628F
designator D?
Bridge BGA-144L(8x8) Video Processing RoHS; Manufacturer: Rockchip; Check: False; Part Number: RK628F; Value: RK628F; NameFromManufacturer: RK628F
footprint RK628F
pins: A1 GND, A2 LVDS1_D0P, A3 LVDS1_D1P, A4 LVDS1_CLKP, A5 LVDS1_D2P, A6 LVDS1_D3P, A7 GPIO3_B1, A8 GPIO3_A1, A9 GPIO3_B0, A10 GPIO2_C4, A11 GPIO2_C1, A12 GND, B1 GVIGVI/LVDS/MIPI_REXT, B2 LVDS1_D0N, B3 LVDS1_D1N, B4 LVDS1_CLKN, B5 LVDS1_D2N, B6 LVDS1_D3N, B7 GPIO3_B2, B8 GPIO3_A3, B9 GPIO3_A0, B10 GPIO2_C3, B11 GPIO2_C0, B12 GPIO2_B7, C1 LVDS0_D3N, C2 LVDS0_D3P, C3 GVI/MIPI_PLL_AVDD_3V3, C4 GND, C5 GVI/MIPI_AVDD_1V1_3, C6 GND, C7 GPIO3_B3_d, C8 GPIO2_C7, C9 GPIO2_C6, C10 GPIO2_C2, C11 GPIO2_B4, C12 GPIO2_B6, D1 LVDS0_D2N, D2 LVDS0_D2P, D3 GND, D4 GVI/MIPI_AVDD_1V1_1, D5 GVI/MIPI_AVDD_3V3_1, D6 GND, D7 TEST_d, D8 DVDD_2, D9 GPIO2_C5, D10 GPIO2_B2, D11 GPIO2_B3, D12 GPIO2_B5, E1 LVDS0_CLKN, E2 LVDS0_CLKP, E3 GVI/MIPI_AVDD_1V1_2, E4 GVI/MIPI_AVDD_3V3_2, E5 GND, E6 GND, E7 GND, E8 VCCIO2_1, E9 DVDD_1, E10 GPIO2_A7, E11 GPIO2_B1, E12 GPIO2_B0, F1 LVDS0_D1N, F2 LVDS0_D1P, F3 GVI/MIPI_AVDD_1V1_4, F4 GND, F5 GND, F6 GND, F7 GND, F8 VCCIO2_2, F9 GPIO2_A3, F10 GPIO2_A6, F11 GPIO2_A5, F12 GPIO2_A4, G1 LVDS0_D0N, G2 LVDS0_D0P, G3 GND, G4 GND, G5 GND, G6 GND, G7 GND, G8 GND, G9 HDMIRX_EXTR, G10 GPIO2_A0, G11 GPIO2_A1, G12 GPIO2_A2, H1 GPIO0_A7, H2 GPIO0_A6, H3 GPIO0_A5, H4 RESETN_u, H5 VCCIO1, H6 GND, H7 GPIO1_A0, H8 GPIO1_A1_d, H9 HDMIRX_DVDD_1V1_1, H10 GND, H11 HDMIRX_D2N, H12 HDMIRX_D2P, J1 GPIO0_A3, J2 GPIO0_A2, J3 GPIO3_B4, J4 HDMITX_DVDD_1V1_2, J5 HDMITX_DVDD_1V1_3, J6 HDMITX_DVDD_1V1_1, J7 PLL_AVDD_1V1, J8 GND, J9 HDMIRX_DVDD_1V1_2, J10 HDMIRX_AVDD_3V3, J11 HDMIRX_D1N, J12 HDMIRX_D1P, K1 GPIO0_B1, K2 GPIO0_A4, K3 GPIO1_B5, K4 HDMITX_AVDD_3V3, K5 GND, K6 GND, K7 GND, K8 GPIO1_B0, K9 GPIO1_B3, K10 GND, K11 HDMIRX_D0N, K12 HDMIRX_D0P, L1 GPIO0_B2, L2 GPIO0_B0, L3 GPIO1_B4, L4 HDMITX_CLKN, L5 HDMITX_D0N, L6 HDMITX_D1N, L7 HDMITX_D2N, L8 GPIO1_B2, L9 OSC_OUT, L10 GND, L11 HDMIRX_CLKN, L12 HDMIRX_CLKP, M1 GND, M2 GPIO0_B3, M3 HDMITX_EXTR, M4 HDMITX_CLKP, M5 HDMITX_D0P, M6 HDMITX_D1P, M7 HDMITX_D2P, M8 GPIO1_B1, M9 OSC_IN, M10 PLL_AVDD_3V3, M11 GND, M12 GND
text: VIDEO; CPU

## RK806S-5
designator D?
Power Management; Manufacturer: Rockchip; Check: False; Part Number: RK806S-5; Value: RK806S-5; NameFromManufacturer: RK806S-5
footprint vqfn68_7x7mm (VQFN68 Leads, Body 7.0x7.0mm, Pitch 0.35mm)
footprint RK806-1
part A pins: 1 VCC9, 5 VOUT8, 6 SW8, 7 VCC8, 22 VCC4, 23 SW4, 24 VOUT4, 25 VOUT10, 26 SW10, 27 VCC10, 28 VCC6, 29 SW6, 30 VOUT6, 31 FB6, 33 VCC2, 34 VCC2, 35 SW2, 36 SW2, 37 VOUT2, 38 FB2, 41 VOUT7, 42 SW7, 43 VCC7, 44 VCC5, 45 SW5, 46 VOUT5, 47 FB5, 48 FB1, 49 VOUT1, 50 SW1, 51 SW1, 52 VCC1, 53 VCC1, 54 VCC3, 55 SW3, 56 VOUT3, 66 FB9, 67 VOUT9, 68 SW9
part B pins: 2 SYNC, 3 SYNC_CLK, 4 PWRON, 8 NLDO5, 9 VCC14, 10 NLDO4, 11 NLDO3, 12 NLDO2, 13 VCC13, 14 NLDO1, 15 MOSI, 16 MISO, 17 CLK, 18 CS, 19 INT, 20 VCCIO, 21 VCCA, 32 VDC, 39 EXT_EN, 40 RESETB, 57 PLDO3, 58 PLDO2, 59 VCC11, 60 PLDO1, 61 PWRCRTL2, 62 PWRCRTL1, 63 PLDO4, 64 VCC12, 65 PLDO5, 69 EPAD
part A text: PMIC
part B text: PMIC

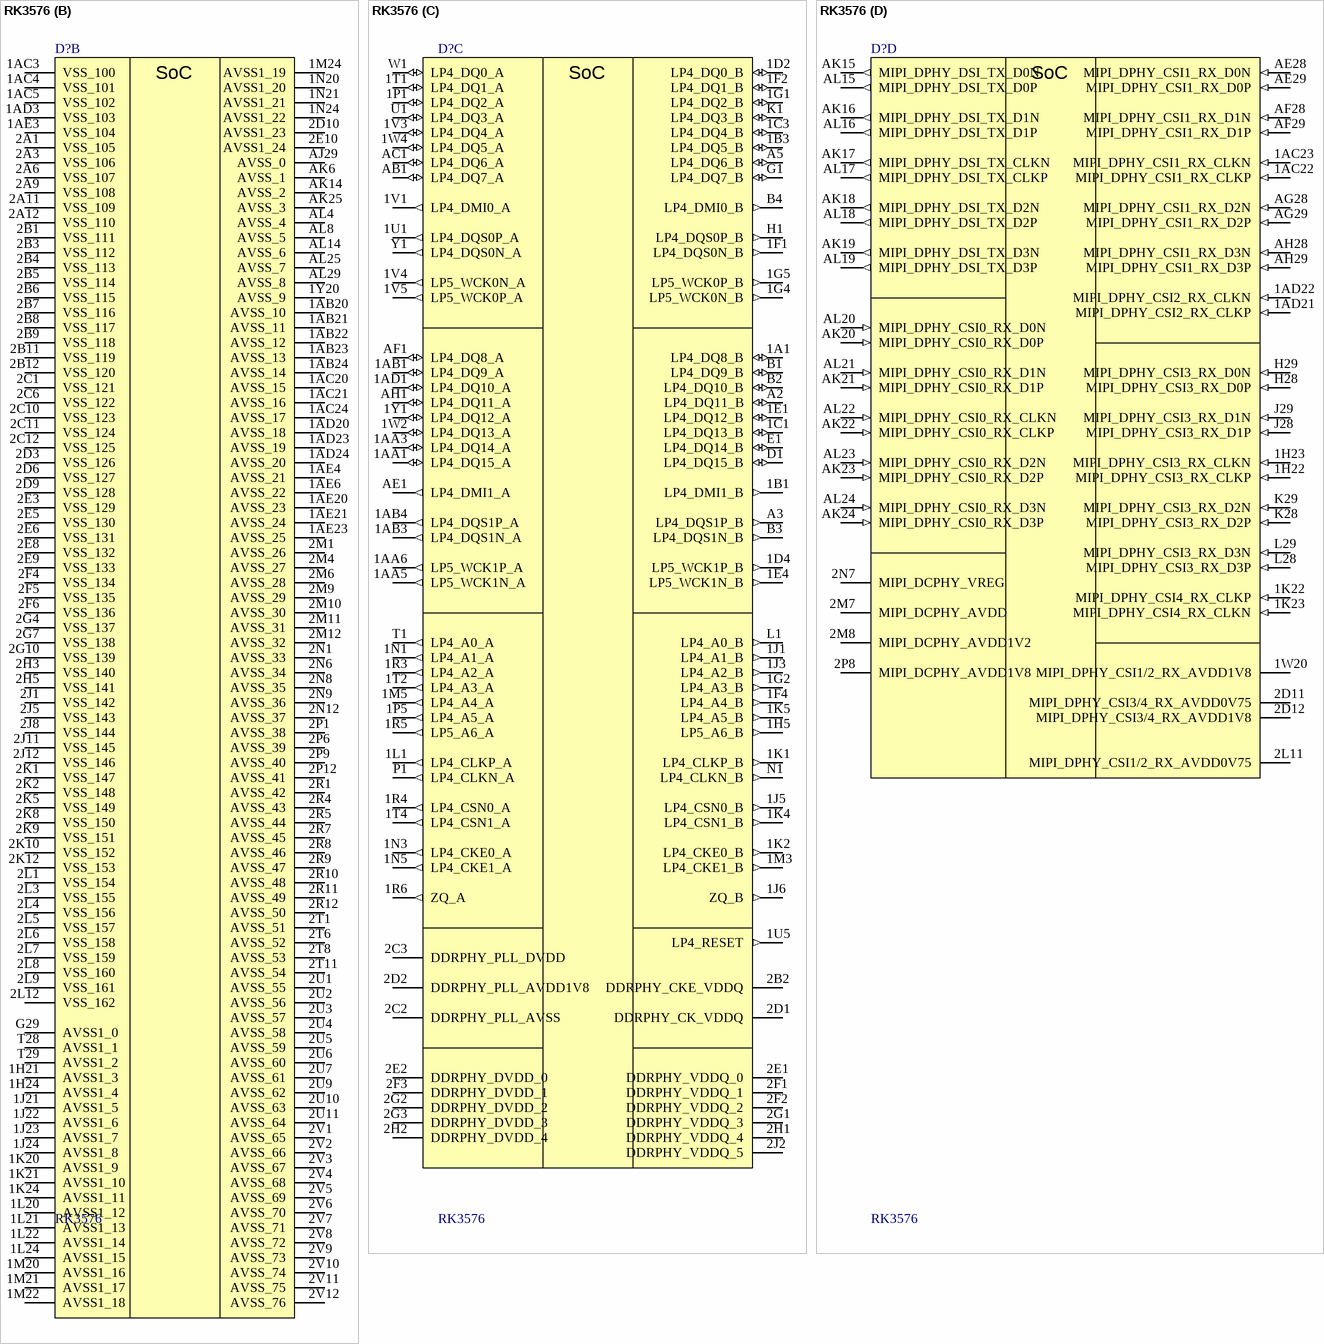
[diagram p8: symbol RK3576]

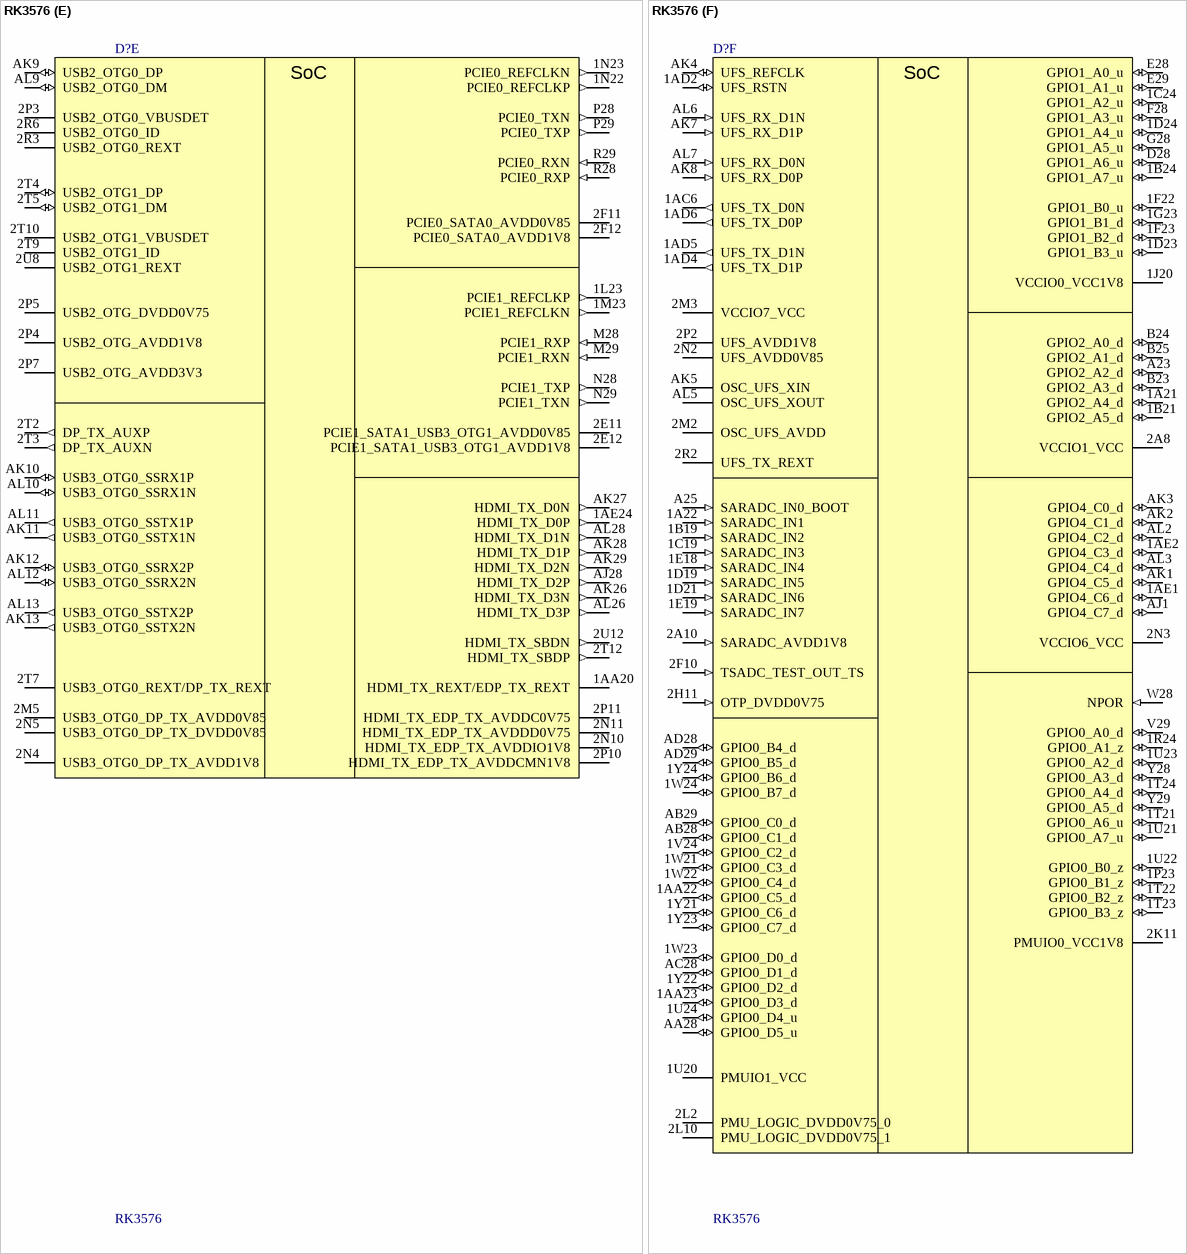
[diagram p9: symbol RK3576]

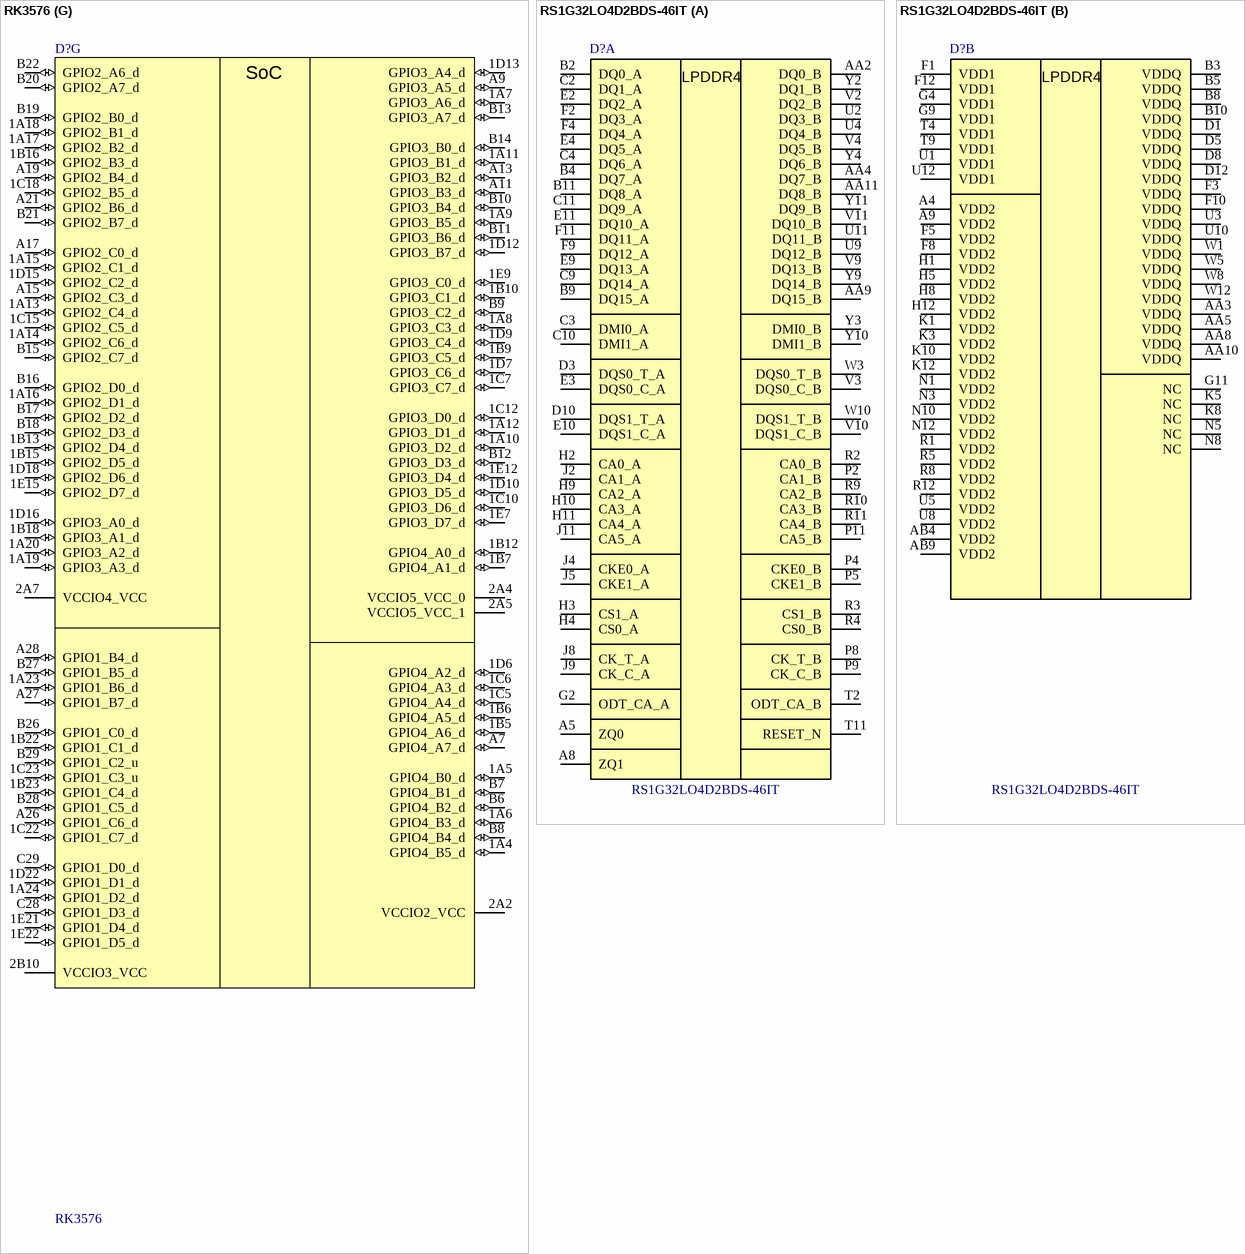
[diagram p10: symbols RK3576 to RS1G32LO4D2BDS-46IT]

## RK3576
designator D?
SoC 4xCortex-A72@2.2Ghz+4xCortex-A53@2Ghz, LPDDR4/4X/5/5X, SDIO/eMMC/UFS/FSPI, BGA 16.1x17.2x1.0mm; Manufacturer: Rockship; Place: *); Check: False; Part Number: RK3576; Temperature: -40°C~85°C; Value: RK3576; ComponentLink1Description: DATASHEET; NameFromManufacturer: RK3576; ComponentLink1URL: https://wiki.friendlyelec.com/wiki/images/b/bf/Rockchip_RK3576_Datasheet_V1.5-20241216.pdf; Last changed: 06.01.2026
footprint BGAFCCSP698L
part A pins: 1A2 VSS_7 (power), 1A3 VSS_8 (power), 1AA2 VSS_91 (power), 1AA4 VSS_92 (power), 1AA21 VSS_93 (power), 1AA24 VSS_94 (power), 1AB2 VSS_95 (power), 1AB5 VSS_96 (power), 1AB6 VSS_97 (power), 1AC1 VSS_98 (power), 1AC2 VSS_99 (power), 1B2 VSS_9 (power), 1C2 VSS_10 (power), 1C4 VSS_11 (power), 1C9 VSS_12 (power), 1C13 VSS_13 (power), 1C16 VSS_14 (power), 1C21 VSS_15 (power), 1D1 VSS_16 (power), 1D3 VSS_17 (power), 1D5 VSS_18 (power), 1E2 VSS_19 (power), 1E3 VSS_20 (power), 1E5 VSS_21 (power), 1E6 VSS_22 (power), 1E10 VSS_23 (power), 1E13 VSS_24 (power), 1E16 VSS_25 (power), 1E23 VSS_26 (power), 1E24 VSS_27 (power), 1F3 VSS_28 (power), 1F5 VSS_29 (power), 1F6 VSS_30 (power), 1F20 VSS_31 (power), 1F21 VSS_32 (power), 1F24 VSS_33 (power), 1G3 VSS_34 (power), 1G6 VSS_35 (power), 1G20 VSS_36 (power), 1G21 VSS_37 (power), 1G22 VSS_38 (power), 1G24 VSS_39 (power), 1H1 VSS_40 (power), 1H2 VSS_41 (power), 1H3 VSS_42 (power), 1H4 VSS_43 (power), 1H6 VSS_44 (power), 1H20 VSS_45 (power), 1J2 VSS_46 (power), 1J4 VSS_47 (power), 1K3 VSS_48 (power), 1K6 VSS_49 (power), 1L2 VSS_50 (power), 1L3 VSS_51 (power), 1L4 VSS_52 (power), 1L5 VSS_53 (power), 1L6 VSS_54 (power), 1M1 VSS_55 (power), 1M2 VSS_56 (power), 1M4 VSS_57 (power), 1M6 VSS_58 (power), 1N2 VSS_59 (power), 1N4 VSS_60 (power), 1N6 VSS_61 (power), 1P2 VSS_62 (power), 1P3 VSS_63 (power), 1P4 VSS_64 (power), 1P6 VSS_65 (power), 1P20 VSS_66 (power), 1P21 VSS_67 (power), 1P22 VSS_68 (power), 1P24 VSS_69 (power), 1R1 VSS_70 (power), 1R2 VSS_71 (power), 1T3 VSS_72 (power), 1T5 VSS_73 (power), 1T6 VSS_74 (power), 1T20 VSS_75 (power), 1U2 VSS_76 (power), 1U3 VSS_77 (power), 1U4 VSS_78 (power), 1U6 VSS_79 (power), 1V2 VSS_80 (power), 1V6 VSS_81 (power), 1W1 VSS_82 (power), 1W3 VSS_83 (power), 1W5 VSS_84 (power), 1W6 VSS_85 (power), 1Y2 VSS_86 (power), 1Y3 VSS_87 (power), 1Y4 VSS_88 (power), 1Y5 VSS_89 (power), 1Y6 VSS_90 (power), 2C4 GPU_DVDD_0 (power), 2C5 GPU_DVDD_1 (power), 2C7 NPU_DVDD_0 (power), 2C8 NPU_DVDD_1 (power), 2C9 NPU_DVDD_2 (power), 2D4 GPU_DVDD_2 (power), 2D5 GPU_DVDD_3 (power), 2D7 NPU_DVDD_3 (power), 2D8 NPU_DVDD_4 (power), 2E4 GPU_DVDD_4 (power), 2E7 LOGIC_DVDD_0 (power), 2F7 LOGIC_MEM_DVDD_0 (power), 2F8 LOGIC_DVDD_1 (power), 2F9 LOGIC_DVDD_2 (power), 2G5 CPU_BIG_DVDD_0 (power), 2G6 CPU_BIG_DVDD_1 (power), 2G8 LOGIC_DVDD_3 (power), 2G9 LOGIC_DVDD_4 (power), 2G11 PLL_DVDD0V75 (power), 2G12 PLL_AVSS (power), 2H4 CPU_LIT_DVDD_0 (power), 2H6 CPU_BIG_DVDD_2 (power), 2H7 CPU_BIG_DVDD_3 (power), 2H8 LOGIC_DVDD_5 (power), 2H9 LOGIC_DVDD_6 (power), 2H10 TVSS (power), 2H12 PLL_AVDD1V8 (power), 2J3 CPU_LIT_DVDD_1 (power), 2J4 CPU_LIT_DVDD_2 (power), 2J6 CPU_BIG_DVDD_4 (power), 2J7 CPU_BIG_DVDD_5 (power), 2J9 LOGIC_MEM_DVDD_1 (power), 2J10 OSC_AVDD1V8 (power), 2K3 CPU_LIT_DVDD_3 (power), 2K4 CPU_LIT_DVDD_4 (power), 2K6 CPU_BIG_DVDD_6 (power), 2K7 CPU_BIG_DVDD_7 (power), A1 VSS_0 (power), A4 VSS_1 (power), A29 VSS_2 (power), AL1 VSS_6 (power), B5 VSS_3 (power), C1 VSS_4 (power), U28 OSC_XIN (in), U29 OSC_XOUT (out), V28 VSS_5 (power)
part B pins: 1AB20 AVSS_10 (power), 1AB21 AVSS_11 (power), 1AB22 AVSS_12 (power), 1AB23 AVSS_13 (power), 1AB24 AVSS_14 (power), 1AC3 VSS_100 (power), 1AC4 VSS_101 (power), 1AC5 VSS_102 (power), 1AC20 AVSS_15 (power), 1AC21 AVSS_16 (power), 1AC24 AVSS_17 (power), 1AD3 VSS_103 (power), 1AD20 AVSS_18 (power), 1AD23 AVSS_19 (power), 1AD24 AVSS_20 (power), 1AE3 VSS_104 (power), 1AE4 AVSS_21 (power), 1AE6 AVSS_22 (power), 1AE20 AVSS_23 (power), 1AE21 AVSS_24 (power), 1AE23 AVSS_25 (power), 1H21 AVSS1_3 (power), 1H24 AVSS1_4 (power), 1J21 AVSS1_5 (power), 1J22 AVSS1_6 (power), 1J23 AVSS1_7 (power), 1J24 AVSS1_8 (power), 1K20 AVSS1_9 (power), 1K21 AVSS1_10 (power), 1K24 AVSS1_11 (power), 1L20 AVSS1_12 (power), 1L21 AVSS1_13 (power), 1L22 AVSS1_14 (power), 1L24 AVSS1_15 (power), 1M20 AVSS1_16 (power), 1M21 AVSS1_17 (power), 1M22 AVSS1_18 (power), 1M24 AVSS1_19 (power), 1N20 AVSS1_20 (power), 1N21 AVSS1_21 (power), 1N24 AVSS1_22 (power), 1Y20 AVSS_9 (power), 2A1 VSS_105 (power), 2A3 VSS_106 (power), 2A6 VSS_107 (power), 2A9 VSS_108 (power), 2A11 VSS_109 (power), 2A12 VSS_110 (power), 2B1 VSS_111 (power), 2B3 VSS_112 (power), 2B4 VSS_113 (power), 2B5 VSS_114 (power), 2B6 VSS_115 (power), 2B7 VSS_116 (power), 2B8 VSS_117 (power), 2B9 VSS_118 (power), 2B11 VSS_119 (power), 2B12 VSS_120 (power), 2C1 VSS_121 (power), 2C6 VSS_122 (power), 2C10 VSS_123 (power), 2C11 VSS_124 (power), 2C12 VSS_125 (power), 2D3 VSS_126 (power), 2D6 VSS_127 (power), 2D9 VSS_128 (power), 2D10 AVSS1_23 (power), 2E3 VSS_129 (power), 2E5 VSS_130 (power), 2E6 VSS_131 (power), 2E8 VSS_132 (power), 2E9 VSS_133 (power), 2E10 AVSS1_24 (power), 2F4 VSS_134 (power), 2F5 VSS_135 (power), 2F6 VSS_136 (power), 2G4 VSS_137 (power), 2G7 VSS_138 (power), 2G10 VSS_139 (power), 2H3 VSS_140 (power), 2H5 VSS_141 (power), 2J1 VSS_142 (power), 2J5 VSS_143 (power), 2J8 VSS_144 (power), 2J11 VSS_145 (power), 2J12 VSS_146 (power), 2K1 VSS_147 (power), 2K2 VSS_148 (power), 2K5 VSS_149 (power), 2K8 VSS_150 (power), 2K9 VSS_151 (power), 2K10 VSS_152 (power), 2K12 VSS_153 (power), 2L1 VSS_154 (power), 2L3 VSS_155 (power), 2L4 VSS_156 (power), 2L5 VSS_157 (power), 2L6 VSS_158 (power), 2L7 VSS_159 (power), 2L8 VSS_160 (power), 2L9 VSS_161 (power), 2L12 VSS_162 (power), 2M1 AVSS_26 (power), 2M4 AVSS_27 (power), 2M6 AVSS_28 (power), 2M9 AVSS_29 (power), 2M10 AVSS_30 (power), 2M11 AVSS_31 (power), 2M12 AVSS_32 (power), 2N1 AVSS_33 (power), 2N6 AVSS_34 (power), 2N8 AVSS_35 (power), 2N9 AVSS_36 (power), 2N12 AVSS_37 (power), 2P1 AVSS_38 (power), 2P6 AVSS_39 (power), 2P9 AVSS_40 (power), 2P12 AVSS_41 (power), 2R1 AVSS_42 (power), 2R4 AVSS_43 (power), 2R5 AVSS_44 (power), 2R7 AVSS_45 (power), 2R8 AVSS_46 (power), 2R9 AVSS_47 (power), 2R10 AVSS_48 (power), 2R11 AVSS_49 (power), 2R12 AVSS_50 (power), 2T1 AVSS_51 (power), 2T6 AVSS_52 (power), 2T8 AVSS_53 (power), 2T11 AVSS_54 (power), 2U1 AVSS_55 (power), 2U2 AVSS_56 (power), 2U3 AVSS_57 (power), 2U4 AVSS_58 (power), 2U5 AVSS_59 (power), 2U6 AVSS_60 (power), 2U7 AVSS_61 (power), 2U9 AVSS_62 (power), 2U10 AVSS_63 (power), 2U11 AVSS_64 (power), 2V1 AVSS_65 (power), 2V2 AVSS_66 (power), 2V3 AVSS_67 (power), 2V4 AVSS_68 (power), 2V5 AVSS_69 (power), 2V6 AVSS_70 (power), 2V7 AVSS_71 (power), 2V8 AVSS_72 (power), 2V9 AVSS_73 (power), 2V10 AVSS_74 (power), 2V11 AVSS_75 (power), 2V12 AVSS_76 (power), AJ29 AVSS_0 (power), AK6 AVSS_1 (power), AK14 AVSS_2 (power), AK25 AVSS_3 (power), AL4 AVSS_4 (power), AL8 AVSS_5 (power), AL14 AVSS_6 (power), AL25 AVSS_7 (power), AL29 AVSS_8 (power), G29 AVSS1_0 (power), T28 AVSS1_1 (power), T29 AVSS1_2 (power)
part C pins: 1A1 LP4_DQ8_B (io), 1AA1 LP4_DQ15_A (io), 1AA3 LP4_DQ14_A (io), 1AA5 LP5_WCK1N_A (out), 1AA6 LP5_WCK1P_A (out), 1AB1 LP4_DQ9_A (io), 1AB3 LP4_DQS1N_A (out), 1AB4 LP4_DQS1P_A (out), 1AD1 LP4_DQ10_A (io), 1B1 LP4_DMI1_B (out), 1B3 LP4_DQ5_B (io), 1C1 LP4_DQ13_B (io), 1C3 LP4_DQ4_B (io), 1D2 LP4_DQ0_B (io), 1D4 LP5_WCK1P_B (out), 1E1 LP4_DQ12_B (io), 1E4 LP5_WCK1N_B (out), 1F1 LP4_DQS0N_B (out), 1F2 LP4_DQ1_B (io), 1F4 LP4_A4_B (out), 1G1 LP4_DQ2_B (io), 1G2 LP4_A3_B (out), 1G4 LP5_WCK0N_B (out), 1G5 LP5_WCK0P_B (out), 1H5 LP5_A6_B (out), 1J1 LP4_A1_B (out), 1J3 LP4_A2_B (out), 1J5 LP4_CSN0_B (out), 1J6 ZQ_B (out), 1K1 LP4_CLKP_B (out), 1K2 LP4_CKE0_B (out), 1K4 LP4_CSN1_B (out), 1K5 LP4_A5_B (out), 1L1 LP4_CLKP_A (out), 1M3 LP4_CKE1_B (out), 1M5 LP4_A4_A (out), 1N1 LP4_A1_A (out), 1N3 LP4_CKE0_A (out), 1N5 LP4_CKE1_A (out), 1P1 LP4_DQ2_A (io), 1P5 LP4_A5_A (out), 1R3 LP4_A2_A (out), 1R4 LP4_CSN0_A (out), 1R5 LP5_A6_A (out), 1R6 ZQ_A (out), 1T1 LP4_DQ1_A (io), 1T2 LP4_A3_A (out), 1T4 LP4_CSN1_A (out), 1U1 LP4_DQS0P_A (out), 1U5 LP4_RESET (out), 1V1 LP4_DMI0_A (out), 1V3 LP4_DQ4_A (io), 1V4 LP5_WCK0N_A (out), 1V5 LP5_WCK0P_A (out), 1W2 LP4_DQ13_A (io), 1W4 LP4_DQ5_A (io), 1Y1 LP4_DQ12_A (io), 2B2 DDRPHY_CKE_VDDQ (power), 2C2 DDRPHY_PLL_AVSS (power), 2C3 DDRPHY_PLL_DVDD (power), 2D1 DDRPHY_CK_VDDQ (power), 2D2 DDRPHY_PLL_AVDD1V8 (power), 2E1 DDRPHY_VDDQ_0 (power), 2E2 DDRPHY_DVDD_0 (power), 2F1 DDRPHY_VDDQ_1 (power), 2F2 DDRPHY_VDDQ_2 (power), 2F3 DDRPHY_DVDD_1 (power), 2G1 DDRPHY_VDDQ_3 (power), 2G2 DDRPHY_DVDD_2 (power), 2G3 DDRPHY_DVDD_3 (power), 2H1 DDRPHY_VDDQ_4 (power), 2H2 DDRPHY_DVDD_4 (power), 2J2 DDRPHY_VDDQ_5 (power), A2 LP4_DQ11_B (io), A3 LP4_DQS1P_B (out), A5 LP4_DQ6_B (io), AB1 LP4_DQ7_A (io), AC1 LP4_DQ6_A (io), AE1 LP4_DMI1_A (out), AF1 LP4_DQ8_A (io), AH1 LP4_DQ11_A (io), B1 LP4_DQ9_B (io), B2 LP4_DQ10_B (io), B3 LP4_DQS1N_B (out), B4 LP4_DMI0_B (out), D1 LP4_DQ15_B (io), E1 LP4_DQ14_B (io), G1 LP4_DQ7_B (io), H1 LP4_DQS0P_B (out), K1 LP4_DQ3_B (io), L1 LP4_A0_B (out), N1 LP4_CLKN_B (out), P1 LP4_CLKN_A (out), T1 LP4_A0_A (out), U1 LP4_DQ3_A (io), W1 LP4_DQ0_A (io), Y1 LP4_DQS0N_A (out)
part D pins: 1AC22 MIPI_DPHY_CSI1_RX_CLKP (in), 1AC23 MIPI_DPHY_CSI1_RX_CLKN (in), 1AD21 MIPI_DPHY_CSI2_RX_CLKP (in), 1AD22 MIPI_DPHY_CSI2_RX_CLKN (in), 1H22 MIPI_DPHY_CSI3_RX_CLKP (in), 1H23 MIPI_DPHY_CSI3_RX_CLKN (in), 1K22 MIPI_DPHY_CSI4_RX_CLKP (in), 1K23 MIPI_DPHY_CSI4_RX_CLKN (in), 1W20 MIPI_DPHY_CSI1/2_RX_AVDD1V8 (power), 2D11 MIPI_DPHY_CSI3/4_RX_AVDD0V75 (power), 2D12 MIPI_DPHY_CSI3/4_RX_AVDD1V8 (power), 2L11 MIPI_DPHY_CSI1/2_RX_AVDD0V75 (power), 2M7 MIPI_DCPHY_AVDD (oe), 2M8 MIPI_DCPHY_AVDD1V2 (oe), 2N7 MIPI_DCPHY_VREG (oe), 2P8 MIPI_DCPHY_AVDD1V8 (oe), AE28 MIPI_DPHY_CSI1_RX_D0N (in), AE29 MIPI_DPHY_CSI1_RX_D0P (in), AF28 MIPI_DPHY_CSI1_RX_D1N (in), AF29 MIPI_DPHY_CSI1_RX_D1P (in), AG28 MIPI_DPHY_CSI1_RX_D2N (in), AG29 MIPI_DPHY_CSI1_RX_D2P (in), AH28 MIPI_DPHY_CSI1_RX_D3N (in), AH29 MIPI_DPHY_CSI1_RX_D3P (in), AK15 MIPI_DPHY_DSI_TX_D0N (out), AK16 MIPI_DPHY_DSI_TX_D1N (out), AK17 MIPI_DPHY_DSI_TX_CLKN (out), AK18 MIPI_DPHY_DSI_TX_D2N (out), AK19 MIPI_DPHY_DSI_TX_D3N (out), AK20 MIPI_DPHY_CSI0_RX_D0P (in), AK21 MIPI_DPHY_CSI0_RX_D1P (in), AK22 MIPI_DPHY_CSI0_RX_CLKP (in), AK23 MIPI_DPHY_CSI0_RX_D2P (in), AK24 MIPI_DPHY_CSI0_RX_D3P (in), AL15 MIPI_DPHY_DSI_TX_D0P (out), AL16 MIPI_DPHY_DSI_TX_D1P (out), AL17 MIPI_DPHY_DSI_TX_CLKP (out), AL18 MIPI_DPHY_DSI_TX_D2P (out), AL19 MIPI_DPHY_DSI_TX_D3P (out), AL20 MIPI_DPHY_CSI0_RX_D0N (in), AL21 MIPI_DPHY_CSI0_RX_D1N (in), AL22 MIPI_DPHY_CSI0_RX_CLKN (in), AL23 MIPI_DPHY_CSI0_RX_D2N (in), AL24 MIPI_DPHY_CSI0_RX_D3N (in), H28 MIPI_DPHY_CSI3_RX_D0P (in), H29 MIPI_DPHY_CSI3_RX_D0N (in), J28 MIPI_DPHY_CSI3_RX_D1P (in), J29 MIPI_DPHY_CSI3_RX_D1N (in), K28 MIPI_DPHY_CSI3_RX_D2P (in), K29 MIPI_DPHY_CSI3_RX_D2N (in), L28 MIPI_DPHY_CSI3_RX_D3P (in), L29 MIPI_DPHY_CSI3_RX_D3N (in)
part E pins: 1AA20 HDMI_TX_REXT/EDP_TX_REXT, 1AE24 HDMI_TX_D0P (out), 1L23 PCIE1_REFCLKP (out), 1M23 PCIE1_REFCLKN (out), 1N22 PCIE0_REFCLKP (out), 1N23 PCIE0_REFCLKN (out), 2E11 PCIE1_SATA1_USB3_OTG1_AVDD0V85 (power), 2E12 PCIE1_SATA1_USB3_OTG1_AVDD1V8 (power), 2F11 PCIE0_SATA0_AVDD0V85 (power), 2F12 PCIE0_SATA0_AVDD1V8 (power), 2M5 USB3_OTG0_DP_TX_AVDD0V85 (power), 2N4 USB3_OTG0_DP_TX_AVDD1V8 (power), 2N5 USB3_OTG0_DP_TX_DVDD0V85 (power), 2N10 HDMI_TX_EDP_TX_AVDDIO1V8 (power), 2N11 HDMI_TX_EDP_TX_AVDDD0V75 (power), 2P3 USB2_OTG0_VBUSDET, 2P4 USB2_OTG_AVDD1V8 (power), 2P5 USB2_OTG_DVDD0V75 (power), 2P7 USB2_OTG_AVDD3V3 (power), 2P10 HDMI_TX_EDP_TX_AVDDCMN1V8 (power), 2P11 HDMI_TX_EDP_TX_AVDDC0V75 (power), 2R3 USB2_OTG0_REXT, 2R6 USB2_OTG0_ID, 2T2 DP_TX_AUXP (out), 2T3 DP_TX_AUXN (out), 2T4 USB2_OTG1_DP (io), 2T5 USB2_OTG1_DM (io), 2T7 USB3_OTG0_REXT/DP_TX_REXT (power), 2T9 USB2_OTG1_ID, 2T10 USB2_OTG1_VBUSDET, 2T12 HDMI_TX_SBDP (out), 2U8 USB2_OTG1_REXT, 2U12 HDMI_TX_SBDN (out), AJ28 HDMI_TX_D2P (out), AK9 USB2_OTG0_DP (io), AK10 USB3_OTG0_SSRX1P (io), AK11 USB3_OTG0_SSTX1N (out), AK12 USB3_OTG0_SSRX2P (io), AK13 USB3_OTG0_SSTX2N (out), AK26 HDMI_TX_D3N (out), AK27 HDMI_TX_D0N (out), AK28 HDMI_TX_D1P (out), AK29 HDMI_TX_D2N (out), AL9 USB2_OTG0_DM (io), AL10 USB3_OTG0_SSRX1N (io), AL11 USB3_OTG0_SSTX1P (out), AL12 USB3_OTG0_SSRX2N (io), AL13 USB3_OTG0_SSTX2P (out), AL26 HDMI_TX_D3P (out), AL28 HDMI_TX_D1N (out), M28 PCIE1_RXP (in), M29 PCIE1_RXN (in), N28 PCIE1_TXP (out), N29 PCIE1_TXN (out), P28 PCIE0_TXN (out), P29 PCIE0_TXP (out), R28 PCIE0_RXP (in), R29 PCIE0_RXN (in)
part F pins: 1A21 GPIO2_A4_d (io), 1A22 SARADC_IN1 (in), 1AA22 GPIO0_C5_d (io), 1AA23 GPIO0_D3_d (io), 1AC6 UFS_TX_D0N (out), 1AD2 UFS_RSTN (io), 1AD4 UFS_TX_D1P (out), 1AD5 UFS_TX_D1N (out), 1AD6 UFS_TX_D0P (out), 1AE1 GPIO4_C6_d (io), 1AE2 GPIO4_C3_d (io), 1B19 SARADC_IN2 (in), 1B21 GPIO2_A5_d (io), 1B24 GPIO1_A7_u (io), 1C19 SARADC_IN3 (in), 1C24 GPIO1_A2_u (io), 1D19 SARADC_IN5 (in), 1D21 SARADC_IN6 (in), 1D23 GPIO1_B3_u (io), 1D24 GPIO1_A4_u (io), 1E18 SARADC_IN4 (in), 1E19 SARADC_IN7 (in), 1F22 GPIO1_B0_u (io), 1F23 GPIO1_B2_d (io), 1G23 GPIO1_B1_d (io), 1J20 VCCIO0_VCC1V8 (power), 1P23 GPIO0_B1_z (io), 1R24 GPIO0_A1_z (io), 1T21 GPIO0_A6_u (io), 1T22 GPIO0_B2_z (io), 1T23 GPIO0_B3_z (io), 1T24 GPIO0_A4_d (io), 1U20 PMUIO1_VCC (power), 1U21 GPIO0_A7_u (io), 1U22 GPIO0_B0_z (io), 1U23 GPIO0_A2_d (io), 1U24 GPIO0_D4_u (io), 1V24 GPIO0_C2_d (io), 1W21 GPIO0_C3_d (io), 1W22 GPIO0_C4_d (io), 1W23 GPIO0_D0_d (io), 1W24 GPIO0_B7_d (io), 1Y21 GPIO0_C6_d (io), 1Y22 GPIO0_D2_d (io), 1Y23 GPIO0_C7_d (io), 1Y24 GPIO0_B6_d (io), 2A8 VCCIO1_VCC (power), 2A10 SARADC_AVDD1V8 (in), 2F10 TSADC_TEST_OUT_TS (in), 2H11 OTP_DVDD0V75 (in), 2K11 PMUIO0_VCC1V8 (power), 2L2 PMU_LOGIC_DVDD0V75_0 (power), 2L10 PMU_LOGIC_DVDD0V75_1 (power), 2M2 OSC_UFS_AVDD (power), 2M3 VCCIO7_VCC (power), 2N2 UFS_AVDD0V85 (power), 2N3 VCCIO6_VCC (power), 2P2 UFS_AVDD1V8 (power), 2R2 UFS_TX_REXT, A23 GPIO2_A2_d (io), A25 SARADC_IN0_BOOT (in), AA28 GPIO0_D5_u (io), AB28 GPIO0_C1_d (io), AB29 GPIO0_C0_d (io), AC28 GPIO0_D1_d (io), AD28 GPIO0_B4_d (io), AD29 GPIO0_B5_d (io), AJ1 GPIO4_C7_d (io), AK1 GPIO4_C5_d (io), AK2 GPIO4_C1_d (io), AK3 GPIO4_C0_d (io), AK4 UFS_REFCLK (io), AK5 OSC_UFS_XIN, AK7 UFS_RX_D1P (in), AK8 UFS_RX_D0P (in), AL2 GPIO4_C2_d (io), AL3 GPIO4_C4_d (io), AL5 OSC_UFS_XOUT, AL6 UFS_RX_D1N (in), AL7 UFS_RX_D0N (in), B23 GPIO2_A3_d (io), B24 GPIO2_A0_d (io), B25 GPIO2_A1_d (io), D28 GPIO1_A6_u (io), E28 GPIO1_A0_u (io), E29 GPIO1_A1_u (io), F28 GPIO1_A3_u (io), G28 GPIO1_A5_u (io), V29 GPIO0_A0_d (io), W28 NPOR (in), Y28 GPIO0_A3_d (io), Y29 GPIO0_A5_d (io)
part G pins: 1A4 GPIO4_B5_d (io), 1A5 GPIO4_B0_d (io), 1A6 GPIO4_B3_d (io), 1A7 GPIO3_A6_d (io), 1A8 GPIO3_C3_d (io), 1A9 GPIO3_B5_d (io), 1A10 GPIO3_D2_d (io), 1A11 GPIO3_B1_d (io), 1A12 GPIO3_D1_d (io), 1A13 GPIO2_C4_d (io), 1A14 GPIO2_C6_d (io), 1A15 GPIO2_C1_d (io), 1A16 GPIO2_D1_d (io), 1A17 GPIO2_B2_d (io), 1A18 GPIO2_B1_d (io), 1A19 GPIO3_A3_d (io), 1A20 GPIO3_A2_d (io), 1A23 GPIO1_B6_d (io), 1A24 GPIO1_D2_d (io), 1B5 GPIO4_A6_d (io), 1B6 GPIO4_A5_d (io), 1B7 GPIO4_A1_d (io), 1B9 GPIO3_C5_d (io), 1B10 GPIO3_C1_d (io), 1B12 GPIO4_A0_d (io), 1B13 GPIO2_D4_d (io), 1B15 GPIO2_D5_d (io), 1B16 GPIO2_B3_d (io), 1B18 GPIO3_A1_d (io), 1B22 GPIO1_C1_d (io), 1B23 GPIO1_C4_d (io), 1C5 GPIO4_A4_d (io), 1C6 GPIO4_A3_d (io), 1C7 GPIO3_C7_d (io), 1C10 GPIO3_D6_d (io), 1C12 GPIO3_D0_d (io), 1C15 GPIO2_C5_d (io), 1C18 GPIO2_B5_d (io), 1C22 GPIO1_C7_d (io), 1C23 GPIO1_C3_u (io), 1D6 GPIO4_A2_d (io), 1D7 GPIO3_C6_d (io), 1D9 GPIO3_C4_d (io), 1D10 GPIO3_D5_d (io), 1D12 GPIO3_B7_d (io), 1D13 GPIO3_A4_d (io), 1D15 GPIO2_C2_d (io), 1D16 GPIO3_A0_d (io), 1D18 GPIO2_D6_d (io), 1D22 GPIO1_D1_d (io), 1E7 GPIO3_D7_d (io), 1E9 GPIO3_C0_d (io), 1E12 GPIO3_D4_d (io), 1E15 GPIO2_D7_d (io), 1E21 GPIO1_D4_d (io), 1E22 GPIO1_D5_d (io), 2A2 VCCIO2_VCC (power), 2A4 VCCIO5_VCC_0 (power), 2A5 VCCIO5_VCC_1 (power), 2A7 VCCIO4_VCC (power), 2B10 VCCIO3_VCC (power), A7 GPIO4_A7_d (io), A9 GPIO3_A5_d (io), A11 GPIO3_B3_d (io), A13 GPIO3_B2_d (io), A15 GPIO2_C3_d (io), A17 GPIO2_C0_d (io), A19 GPIO2_B4_d (io), A21 GPIO2_B6_d (io), A26 GPIO1_C6_d (io), A27 GPIO1_B7_d (io), A28 GPIO1_B4_d (io), B6 GPIO4_B2_d (io), B7 GPIO4_B1_d (io), B8 GPIO4_B4_d (io), B9 GPIO3_C2_d (io), B10 GPIO3_B4_d (io), B11 GPIO3_B6_d (io), B12 GPIO3_D3_d (io), B13 GPIO3_A7_d (io), B14 GPIO3_B0_d (io), B15 GPIO2_C7_d (io), B16 GPIO2_D0_d (io), B17 GPIO2_D2_d (io), B18 GPIO2_D3_d (io), B19 GPIO2_B0_d (io), B20 GPIO2_A7_d (io), B21 GPIO2_B7_d (io), B22 GPIO2_A6_d (io), B26 GPIO1_C0_d (io), B27 GPIO1_B5_d (io), B28 GPIO1_C5_d (io), B29 GPIO1_C2_u (io), C28 GPIO1_D3_d (io), C29 GPIO1_D0_d (io)
part A text: SoC
part B text: SoC
part C text: SoC
part D text: SoC
part E text: SoC
part F text: SoC
part G text: SoC

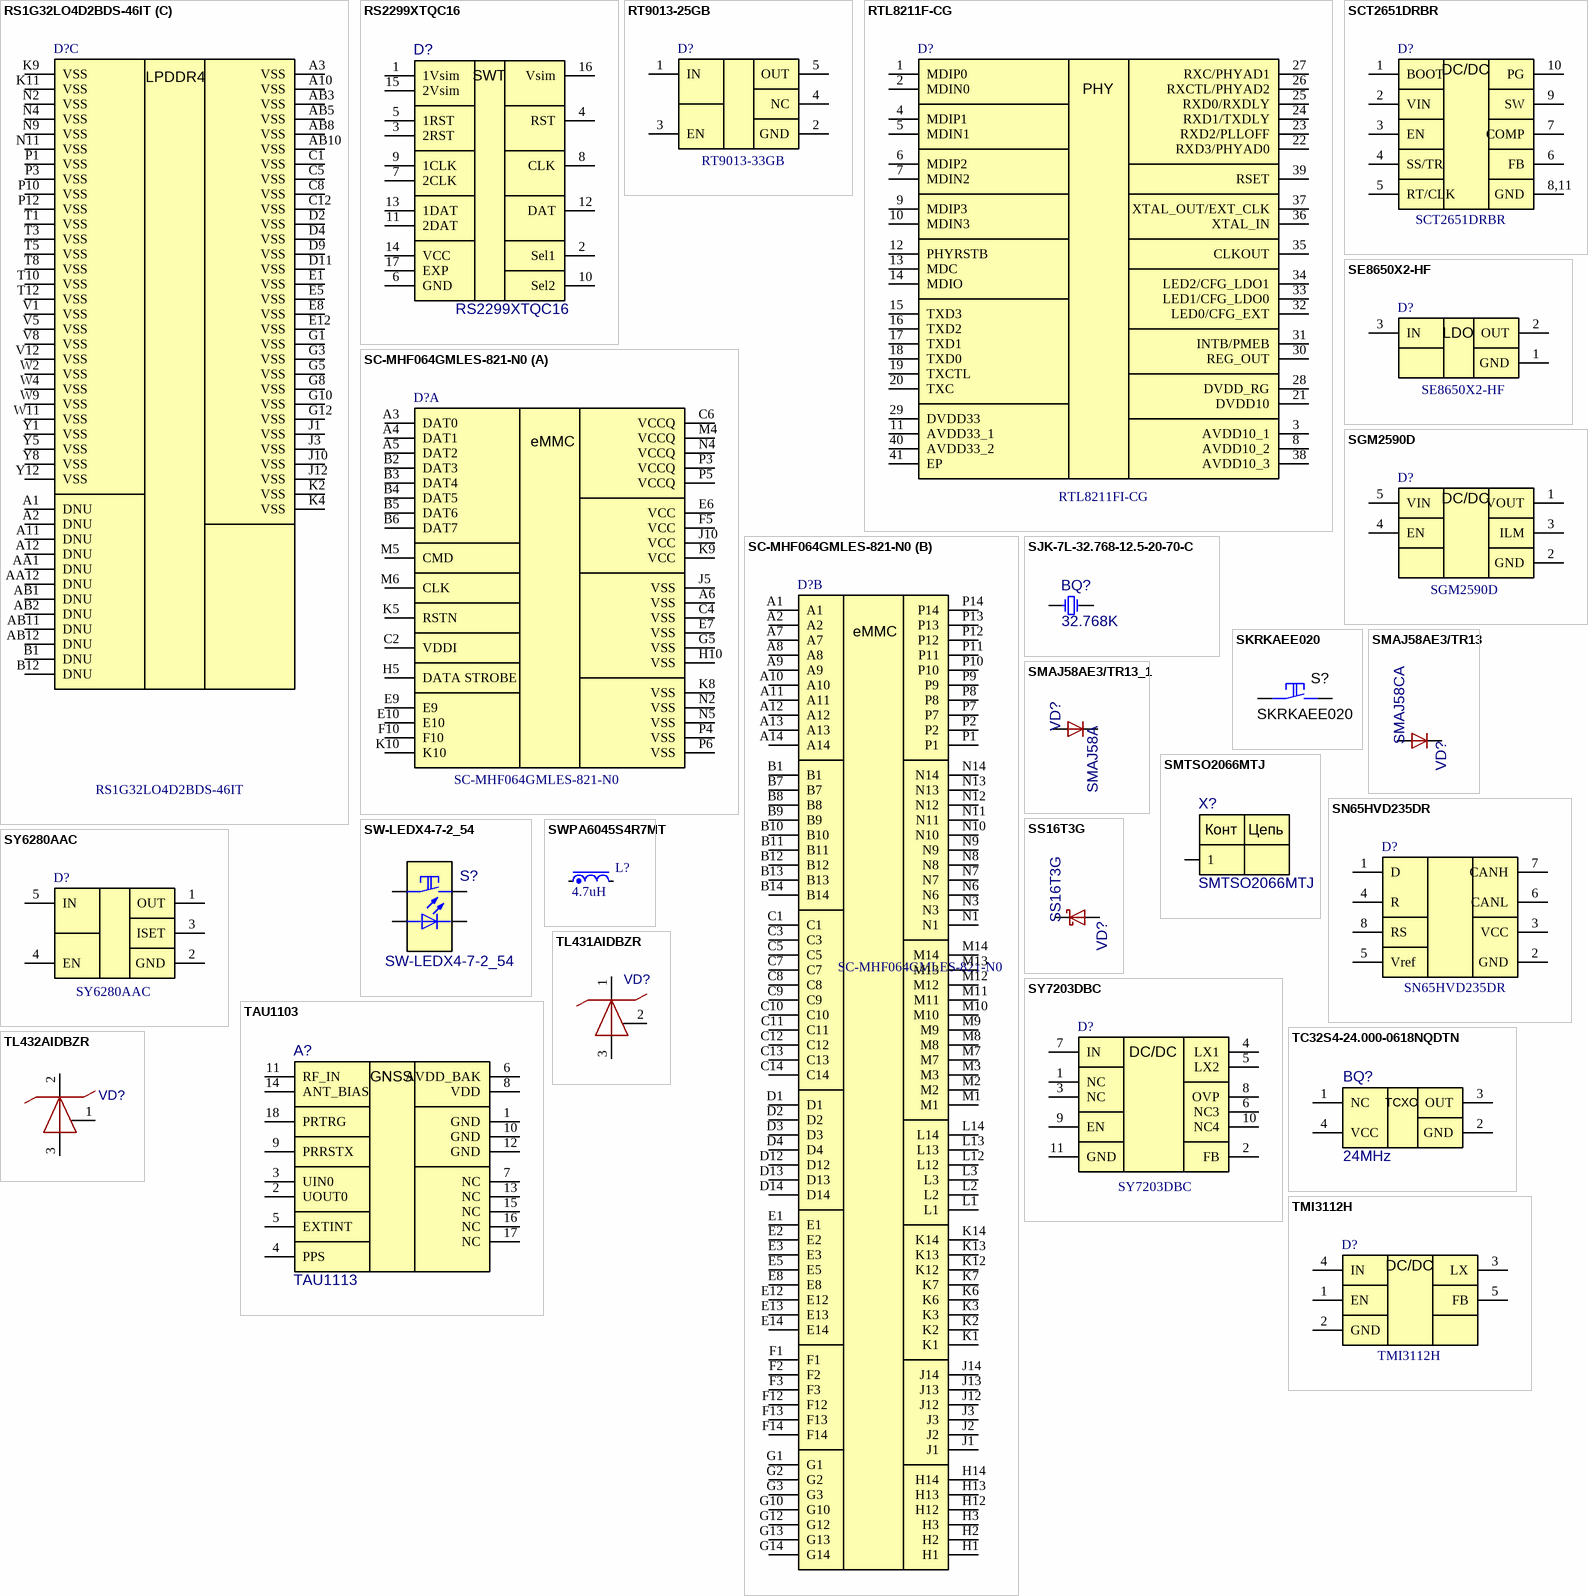
[diagram p11: symbols RS1G32LO4D2BDS-46IT to TMI3112H]

## RS1G32LO4D2BDS-46IT
designator D?
DDR4 SDRAM емкостью 32 Гбит с организацией 1024М x 32 бит; Manufacturer: Rayson; Check: False; Part Number: RS1G32LO4D2BDS-46IT; NameFromManufacturer: RS1G32LO4D2BDS-46IT; Value: RS1G32LO4D2BDS-46IT
footprint RS1G32LO4D2BDS-46IT
part A pins: A5 ZQ0, A8 ZQ1, AA2 DQ0_B, AA4 DQ7_B, AA9 DQ15_B, AA11 DQ8_B, B2 DQ0_A, B4 DQ7_A, B9 DQ15_A, B11 DQ8_A, C2 DQ1_A, C3 DMI0_A, C4 DQ6_A, C9 DQ14_A, C10 DMI1_A, C11 DQ9_A, D3 DQS0_T_A, D10 DQS1_T_A, E2 DQ2_A, E3 DQS0_C_A, E4 DQ5_A, E9 DQ13_A, E10 DQS1_C_A, E11 DQ10_A, F2 DQ3_A, F4 DQ4_A, F9 DQ12_A, F11 DQ11_A, G2 ODT_CA_A, H2 CA0_A, H3 CS1_A, H4 CS0_A, H9 CA2_A, H10 CA3_A, H11 CA4_A, J2 CA1_A, J4 CKE0_A, J5 CKE1_A, J8 CK_T_A, J9 CK_C_A, J11 CA5_A, P2 CA1_B, P4 CKE0_B, P5 CKE1_B, P8 CK_T_B, P9 CK_C_B, P11 CA5_B, R2 CA0_B, R3 CS1_B, R4 CS0_B, R9 CA2_B, R10 CA3_B, R11 CA4_B, T2 ODT_CA_B, T11 RESET_N, U2 DQ3_B, U4 DQ4_B, U9 DQ12_B, U11 DQ11_B, V2 DQ2_B, V3 DQS0_C_B, V4 DQ5_B, V9 DQ13_B, V10 DQS1_C_B, V11 DQ10_B, W3 DQS0_T_B, W10 DQS1_T_B, Y2 DQ1_B, Y3 DMI0_B, Y4 DQ6_B, Y9 DQ14_B, Y10 DMI1_B, Y11 DQ9_B
part B pins: A4 VDD2, A9 VDD2, AA3 VDDQ, AA5 VDDQ, AA8 VDDQ, AA10 VDDQ, AB4 VDD2, AB9 VDD2, B3 VDDQ, B5 VDDQ, B8 VDDQ, B10 VDDQ, D1 VDDQ, D5 VDDQ, D8 VDDQ, D12 VDDQ, F1 VDD1, F3 VDDQ, F5 VDD2, F8 VDD2, F10 VDDQ, F12 VDD1, G4 VDD1, G9 VDD1, G11 NC, H1 VDD2, H5 VDD2, H8 VDD2, H12 VDD2, K1 VDD2, K3 VDD2, K5 NC, K8 NC, K10 VDD2, K12 VDD2, N1 VDD2, N3 VDD2, N5 NC, N8 NC, N10 VDD2, N12 VDD2, R1 VDD2, R5 VDD2, R8 VDD2, R12 VDD2, T4 VDD1, T9 VDD1, U1 VDD1, U3 VDDQ, U5 VDD2, U8 VDD2, U10 VDDQ, U12 VDD1, W1 VDDQ, W5 VDDQ, W8 VDDQ, W12 VDDQ
part C pins: A1 DNU, A2 DNU, A3 VSS, A10 VSS, A11 DNU, A12 DNU, AA1 DNU, AA12 DNU, AB1 DNU, AB2 DNU, AB3 VSS, AB5 VSS, AB8 VSS, AB10 VSS, AB11 DNU, AB12 DNU, B1 DNU, B12 DNU, C1 VSS, C5 VSS, C8 VSS, C12 VSS, D2 VSS, D4 VSS, D9 VSS, D11 VSS, E1 VSS, E5 VSS, E8 VSS, E12 VSS, G1 VSS, G3 VSS, G5 VSS, G8 VSS, G10 VSS, G12 VSS, J1 VSS, J3 VSS, J10 VSS, J12 VSS, K2 VSS, K4 VSS, K9 VSS, K11 VSS, N2 VSS, N4 VSS, N9 VSS, N11 VSS, P1 VSS, P3 VSS, P10 VSS, P12 VSS, T1 VSS, T3 VSS, T5 VSS, T8 VSS, T10 VSS, T12 VSS, V1 VSS, V5 VSS, V8 VSS, V12 VSS, W2 VSS, W4 VSS, W9 VSS, W11 VSS, Y1 VSS, Y5 VSS, Y8 VSS, Y12 VSS
part A text: LPDDR4
part B text: LPDDR4
part C text: LPDDR4

## RS2299XTQC16
designator D?
Analog Switches; Manufacturer: RUNIC Tech; Check: False; Part Number: RS2299XTQC16; Value: RS2299XTQC16; NameFromManufacturer: RS2299XTQC16
footprint RS2299XTQC16
pins: 1 1Vsim, 2 Sel1, 3 2RST, 4 RST, 5 1RST, 6 GND, 7 2CLK, 8 CLK, 9 1CLK, 10 Sel2, 11 2DAT, 12 DAT, 13 1DAT, 14 VCC, 15 2Vsim, 16 Vsim, 17 EXP
text: SWT

## RT9013-25GB
designator D?, comment RT9013-33GB
Linear Voltage Regulators   500mA 50dB@(10kHz) Fixed 3.3V; Manufacturer: Richtek; Check: False; Part Number: RT9013-33GB; NameFromManufacturer: RT9013-33GB; Value: RT9013-33GB
footprint SY6280AAC
footprint RT9013-25GB
pins: 1 IN, 2 GND, 3 EN, 4 NC, 5 OUT

## RTL8211F-CG
designator D?, comment RTL8211FI-CG
Phy 1-CH 10MBPS/100MBPS/1GBPS 3.3V 40-PIN QFN; Manufacturer: Realtek Semicon; Check: False; Part Number: RTL8211FI-CG; Value: RTL8211FI-CG; NameFromManufacturer: RTL8211FI-CG; ComponentLink1Description: DATASHEET; Last changed: 24.03.2023
footprint RTL8211F-CG
pins: 1 MDIP0, 2 MDIN0, 3 AVDD10_1, 4 MDIP1, 5 MDIN1, 6 MDIP2, 7 MDIN2, 8 AVDD10_2, 9 MDIP3, 10 MDIN3, 11 AVDD33_1, 12 PHYRSTB, 13 MDC, 14 MDIO, 15 TXD3, 16 TXD2, 17 TXD1, 18 TXD0, 19 TXCTL, 20 TXC, 21 DVDD10, 22 RXD3/PHYAD0, 23 RXD2/PLLOFF, 24 RXD1/TXDLY, 25 RXD0/RXDLY, 26 RXCTL/PHYAD2, 27 RXC/PHYAD1, 28 DVDD_RG, 29 DVDD33, 30 REG_OUT, 31 INTB/PMEB, 32 LED0/CFG_EXT, 33 LED1/CFG_LDO0, 34 LED2/CFG_LDO1, 35 CLKOUT, 36 XTAL_IN, 37 XTAL_OUT/EXT_CLK, 38 AVDD10_3, 39 RSET, 40 AVDD33_2, 41 EP
text: PHY